# Altium schematic symbol library FPGA_Xilinx_Virtex5.SchLib: 41 symbols (part 15 of 17)
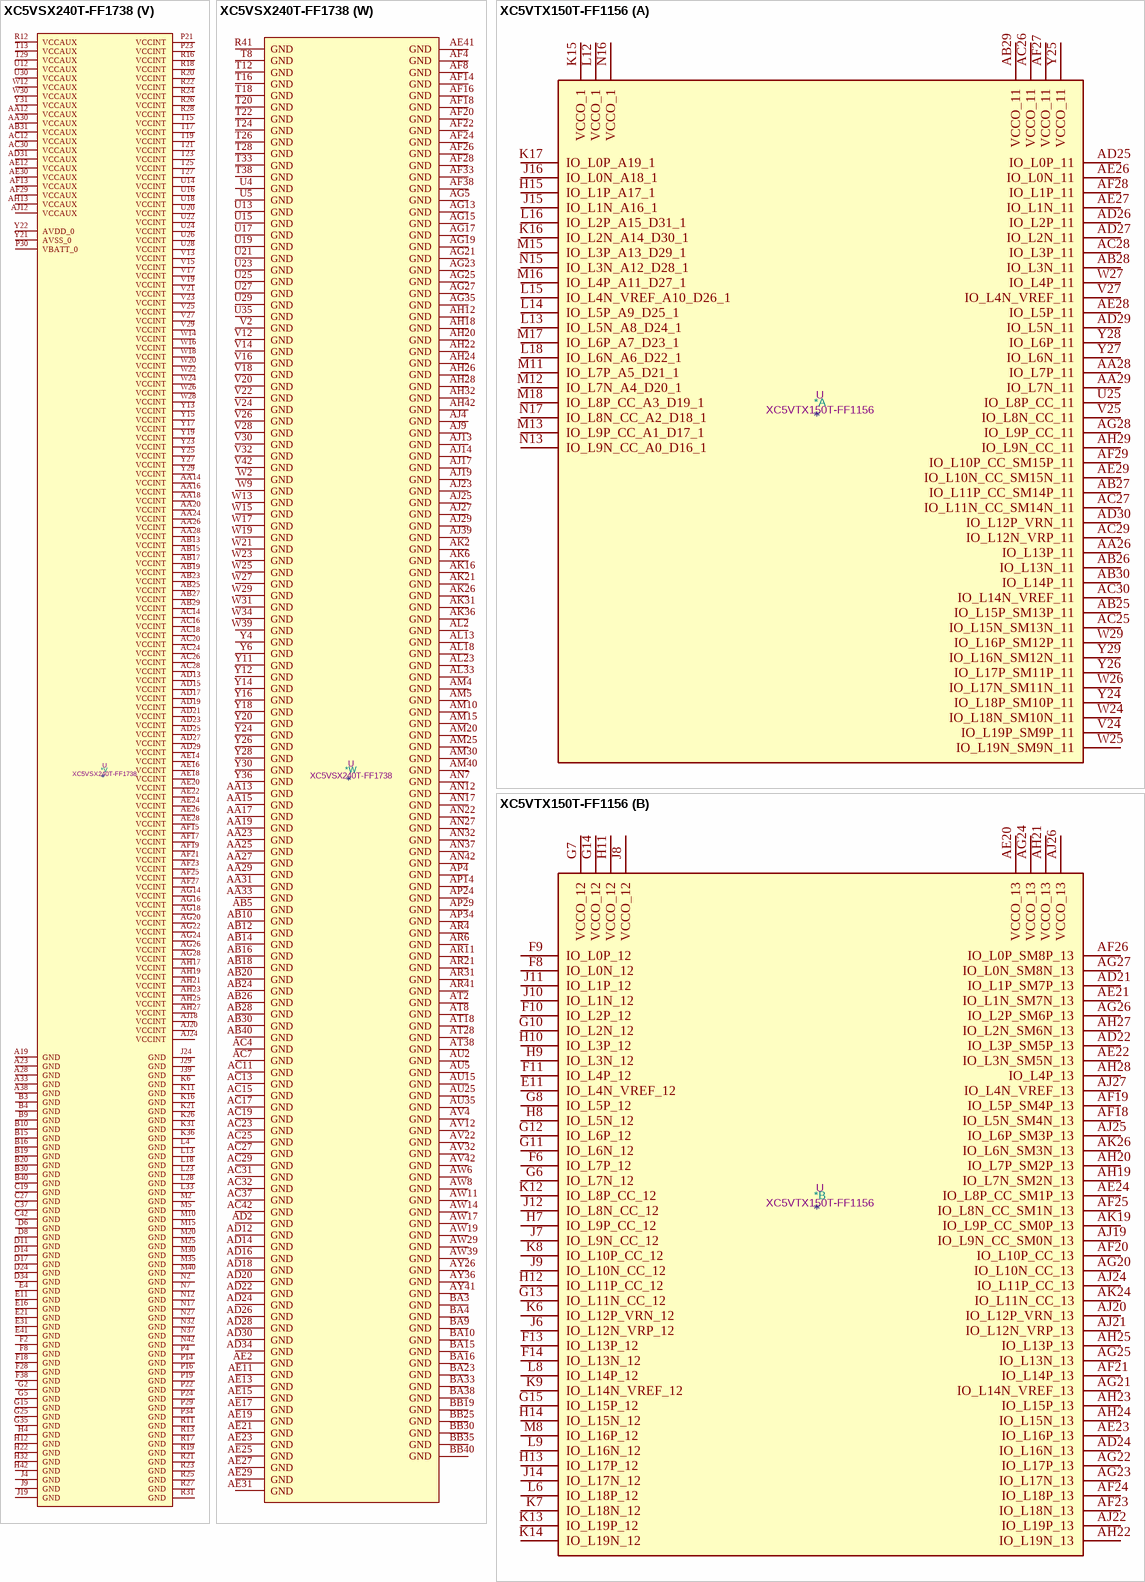
[diagram p151: symbols XC5VSX240T-FF1738 to XC5VTX150T-FF1156]

## XC5VSX240T-FF1738
designator *  value XC5VSX240T-FF1738  Reference: U
Virtex 5 SXT 240 XC5VSX240T-FF1738; ki_keywords: FPGA; Description_: Virtex 5 SXT 240 XC5VSX240T-FF1738
part A pins: AA37 IO_L11N_CC_SM14N_11, AA38 VCCO_11, AA39 IO_L9N_CC_11, AA40 IO_L9P_CC_11, AA41 IO_L19N_SM9N_11, AA42 IO_L19P_SM9P_11, F13 VCCO_1, F41 IO_L1P_11, F42 IO_L0P_11, G41 IO_L1N_11, G42 IO_L0N_11, H41 IO_L2P_11, J14 VCCO_1, J41 IO_L2N_11, J42 IO_L3P_11, K42 IO_L3N_11, L40 IO_L4P_11, L41 IO_L4N_VREF_11, L42 IO_L5P_11, M13 IO_L7N_A4_D20_1, M14 IO_L7P_A5_D21_1, M16 IO_L3P_A13_D29_1, M29 IO_L8N_CC_A2_D18_1, M41 IO_L5N_11, M42 IO_L6P_11, N13 IO_L9P_CC_A1_D17_1, N14 IO_L5N_A8_D24_1, N15 IO_L5P_A9_D25_1, N16 IO_L3N_A12_D28_1, N25 IO_L0P_A19_1, N26 IO_L2N_A14_D30_1, N28 IO_L6P_A7_D23_1, N29 IO_L6N_A6_D22_1, N30 IO_L8P_CC_A3_D19_1, N40 IO_L7P_11, N41 IO_L6N_11, P13 IO_L9N_CC_A0_D16_1, P17 IO_L1N_A16_1, P18 IO_L1P_A17_1, P25 IO_L0N_A18_1, P26 IO_L2P_A15_D31_1, P27 IO_L4P_A11_D27_1, P28 IO_L4N_VREF_A10_D26_1, P40 IO_L7N_11, P41 IO_L13P_11, P42 IO_L12N_VRP_11, R40 IO_L13N_11, R42 IO_L12P_VRN_11, T40 IO_L14P_11, T41 IO_L14N_VREF_11, T42 IO_L15P_SM13P_11, U41 IO_L15N_SM13N_11, U42 IO_L16P_SM12P_11, V37 VCCO_11, V40 IO_L17P_SM11P_11, V41 IO_L16N_SM12N_11, W40 IO_L8P_CC_11, W41 IO_L17N_SM11N_11, W42 IO_L18P_SM10P_11, Y37 IO_L11P_CC_SM14P_11, Y38 IO_L10N_CC_SM15N_11, Y39 IO_L10P_CC_SM15P_11, Y40 IO_L8N_CC_11, Y41 VCCO_11, Y42 IO_L18N_SM10N_11
part B pins: AA6 IO_L0N_12, AA7 IO_L0P_12, AA8 VCCO_12, AA9 IO_L17P_12, AA10 IO_L16N_12, AA11 IO_L16P_12, AB35 VCCO_13, AB37 IO_L8P_CC_SM1P_13, AB38 IO_L8N_CC_SM1N_13, AB39 IO_L9P_CC_SM0P_13, AB41 IO_L0P_SM8P_13, AB42 IO_L0N_SM8N_13, AC38 IO_L9N_CC_SM0N_13, AC39 IO_L11N_CC_13, AC40 IO_L11P_CC_13, AC41 IO_L1P_SM7P_13, AD39 VCCO_13, AD40 IO_L10N_CC_13, AD41 IO_L2N_SM6N_13, AD42 IO_L1N_SM7N_13, AE36 VCCO_13, AE40 IO_L10P_CC_13, AE42 IO_L2P_SM6P_13, AF40 IO_L4P_13, AF41 IO_L3P_SM5P_13, AF42 IO_L3N_SM5N_13, AG41 IO_L4N_VREF_13, AG42 IO_L5P_SM4P_13, AH40 IO_L7P_SM2P_13, AH41 IO_L5N_SM4N_13, AJ40 IO_L7N_SM2N_13, AJ41 IO_L6N_SM3N_13, AJ42 IO_L6P_SM3P_13, AK40 IO_L12P_VRN_13, AK42 IO_L13N_13, AL40 IO_L12N_VRP_13, AL41 IO_L13P_13, AL42 IO_L14P_13, AM41 IO_L15P_13, AM42 IO_L14N_VREF_13, AN41 IO_L15N_13, AP41 IO_L16N_13, AP42 IO_L16P_13, AR42 IO_L17P_13, AT41 IO_L18P_13, AT42 IO_L17N_13, AU41 IO_L18N_13, AU42 IO_L19P_13, AV41 IO_L19N_13, G6 IO_L1P_12, H5 IO_L1N_12, H6 IO_L3P_12, J5 IO_L3N_12, J6 IO_L5P_12, K4 IO_L7P_12, K5 IO_L5N_12, L5 IO_L7N_12, L6 IO_L9P_CC_12, M6 IO_L9N_CC_12, N5 IO_L10P_CC_12, N6 IO_L10N_CC_12, P5 IO_L12P_VRN_12, P6 IO_L12N_VRP_12, R4 IO_L14P_12, R5 IO_L14N_VREF_12, T4 IO_L15N_12, T5 IO_L15P_12, T6 IO_L13N_12, T7 IO_L13P_12, U6 IO_L11N_CC_12, U7 IO_L11P_CC_12, U10 VCCO_12, V5 IO_L8P_CC_12, V6 IO_L8N_CC_12, V7 VCCO_12, V8 IO_L6N_12, W5 IO_L2P_12, W6 IO_L2N_12, W7 IO_L4N_VREF_12, W8 IO_L6P_12, W10 IO_L18N_12, W11 IO_L18P_12, Y7 IO_L4P_12, Y8 IO_L19N_12, Y9 IO_L19P_12, Y10 IO_L17N_12
part C pins: AA34 IO_L17P_15, AA35 IO_L16P_15, AA36 IO_L16N_15, AB34 IO_L0P_17, AB36 IO_L1N_17, AC34 IO_L0N_17, AC35 IO_L1P_17, AC36 IO_L2P_17, AD35 IO_L2N_17, AD36 IO_L3P_17, AD37 IO_L3N_17, AD38 IO_L4N_VREF_17, AE37 IO_L4P_17, AE38 IO_L5N_17, AE39 IO_L5P_17, AF37 IO_L7N_17, AF39 IO_L6P_17, AG37 IO_L7P_17, AG38 IO_L6N_17, AG39 IO_L12P_VRN_17, AG40 VCCO_17, AH37 VCCO_17, AH38 IO_L15N_17, AH39 IO_L12N_VRP_17, AJ37 IO_L15P_17, AJ38 IO_L13P_17, AK37 IO_L14N_VREF_17, AK38 IO_L14P_17, AK39 IO_L13N_17, AK41 VCCO_17, AL37 IO_L19N_17, AL39 IO_L16P_17, AM37 IO_L19P_17, AM38 IO_L18N_17, AM39 IO_L16N_17, AN38 IO_L18P_17, AN39 IO_L17P_17, AN40 IO_L8P_CC_17, AP38 IO_L17N_17, AP40 IO_L8N_CC_17, AR39 IO_L11N_CC_17, AR40 IO_L9P_CC_17, AT39 IO_L11P_CC_17, AT40 IO_L9N_CC_17, AU39 IO_L10N_CC_17, AV40 IO_L10P_CC_17, E39 IO_L3P_15, E40 IO_L3N_15, F39 IO_L2P_15, F40 IO_L2N_15, G38 IO_L1P_15, G39 IO_L1N_15, H38 IO_L0P_15, H39 IO_L0N_15, H40 IO_L10P_CC_15, J38 IO_L9N_CC_15, J40 IO_L10N_CC_15, K38 IO_L9P_CC_15, K39 IO_L11N_CC_15, K40 IO_L11P_CC_15, L39 IO_L8N_CC_15, M38 IO_L8P_CC_15, M39 IO_L7N_15, N38 IO_L6N_15, N39 IO_L7P_15, P37 IO_L5N_15, P38 IO_L6P_15, P39 VCCO_15, R36 VCCO_15, R37 IO_L5P_15, R38 IO_L4N_VREF_15, R39 IO_L4P_15, T37 IO_L13P_15, T39 IO_L14P_15, U37 IO_L12N_VRP_15, U38 IO_L13N_15, U39 IO_L14N_VREF_15, U40 VCCO_15, V38 IO_L12P_VRN_15, V39 IO_L15P_15, W35 IO_L18N_15, W36 IO_L19P_15, W37 IO_L19N_15, W38 IO_L15N_15, Y34 IO_L17N_15, Y35 IO_L18P_15
part D pins: AA32 IO_L19N_19, AB6 IO_L9N_CC_18, AB7 IO_L9P_CC_18, AB8 IO_L3N_18, AB9 IO_L3P_18, AB11 IO_L1P_18, AC5 IO_L10P_CC_18, AC6 IO_L10N_CC_18, AC8 IO_L5P_18, AC9 IO_L5N_18, AC10 IO_L1N_18, AD5 IO_L14N_VREF_18, AD6 IO_L12P_VRN_18, AD7 IO_L12N_VRP_18, AD8 IO_L16P_18, AD9 VCCO_18, AD10 IO_L7P_18, AD11 IO_L7N_18, AE5 IO_L14P_18, AE6 VCCO_18, AE7 IO_L15N_18, AE8 IO_L16N_18, AE9 IO_L18P_18, AE10 IO_L18N_18, AF5 IO_L11P_CC_18, AF6 IO_L11N_CC_18, AF7 IO_L15P_18, AF9 IO_L17P_18, AF10 IO_L17N_18, AF11 IO_L19P_18, AF12 IO_L19N_18, AG4 IO_L8P_CC_18, AG6 IO_L13P_18, AG7 IO_L13N_18, AG10 VCCO_18, AH4 IO_L8N_CC_18, AH5 IO_L6N_18, AH6 IO_L6P_18, AJ5 IO_L4N_VREF_18, AJ6 IO_L4P_18, AJ7 IO_L0P_18, AK5 IO_L2N_18, AK7 IO_L0N_18, AL5 IO_L2P_18, D37 IO_L15N_19, E37 IO_L14N_VREF_19, E38 IO_L15P_19, F36 IO_L13P_19, F37 IO_L14P_19, G36 IO_L13N_19, G37 IO_L12N_VRP_19, G40 VCCO_19, H35 IO_L6P_19, H36 IO_L12P_VRN_19, J35 IO_L5N_19, J36 IO_L6N_19, J37 IO_L7N_19, K35 IO_L5P_19, K37 IO_L7P_19, K41 VCCO_19, L35 IO_L4N_VREF_19, L36 IO_L4P_19, L37 IO_L2P_19, L38 VCCO_19, M36 IO_L1N_19, M37 IO_L2N_19, N35 IO_L1P_19, N36 IO_L3P_19, P35 IO_L0N_19, P36 IO_L3N_19, R34 IO_L0P_19, R35 IO_L10P_CC_19, T34 IO_L9P_CC_19, T35 IO_L8N_CC_19, T36 IO_L10N_CC_19, U33 IO_L9N_CC_19, U34 IO_L8P_CC_19, U36 IO_L11P_CC_19, V33 IO_L17P_19, V34 IO_L16N_19, V35 IO_L16P_19, V36 IO_L11N_CC_19, W32 IO_L18N_19, W33 IO_L17N_19, Y32 IO_L19P_19, Y33 IO_L18P_19
part E pins: AJ26 IO_L9N_D0_FS0_2, AJ30 IO_L1P_CC_A25_2, AK12 IO_L0P_CC_RS1_2, AK13 IO_L0N_CC_RS0_2, AK14 IO_L2N_A22_2, AK15 IO_L2P_A23_2, AK27 IO_L9P_D1_FS1_2, AK28 IO_L7P_D5_2, AK29 IO_L7N_D4_2, AK30 IO_L1N_CC_A24_2, AL14 IO_L4P_FCS_B_2, AL29 IO_L5N_CSO_B_2, AL30 IO_L3P_A21_2, AM13 IO_L4N_VREF_FOE_B_MOSI_2, AM14 IO_L8N_D2_FS2_2, AM28 IO_L5P_FWE_B_2, AM29 IO_L3N_A20_2, AN13 IO_L6P_D7_2, AN14 IO_L8P_D3_2, AP13 IO_L6N_D6_2, AR26 VCCO_2, AV27 VCCO_2, D7 IO_L3P_20, E5 IO_L7P_20, E7 IO_L3N_20, E8 IO_L1N_20, E9 IO_L1P_20, F5 IO_L7N_20, F6 IO_L5N_20, F7 IO_L5P_20, F9 IO_L9P_CC_20, G7 IO_L10P_CC_20, G8 IO_L10N_CC_20, G9 IO_L9N_CC_20, H8 IO_L12P_VRN_20, H9 IO_L12N_VRP_20, J7 IO_L14N_VREF_20, J8 IO_L14P_20, K7 IO_L17P_20, K8 IO_L16P_20, K9 IO_L16N_20, L7 IO_L17N_20, L8 VCCO_20, L9 IO_L19N_20, M7 IO_L18P_20, M8 IO_L18N_20, M9 IO_L19P_20, N8 IO_L0N_20, N9 IO_L0P_20, P7 IO_L2P_20, P8 IO_L2N_20, P9 VCCO_20, R6 VCCO_20, R7 IO_L4P_20, R8 IO_L4N_VREF_20, R9 IO_L6P_20, T9 IO_L6N_20, T10 IO_L13P_20, T11 IO_L13N_20, U8 IO_L11P_CC_20, U9 IO_L11N_CC_20, U11 IO_L15P_20, V9 IO_L8P_CC_20, V10 IO_L8N_CC_20, V11 IO_L15N_20
part F pins: AB32 IO_L0N_21, AB33 IO_L0P_21, AC33 IO_L1P_21, AD32 IO_L1N_21, AD33 IO_L2P_21, AE32 IO_L2N_21, AE33 IO_L3P_21, AE34 IO_L3N_21, AE35 IO_L8P_CC_21, AF34 IO_L8N_CC_21, AF35 IO_L9P_CC_21, AF36 IO_L9N_CC_21, AG34 IO_L10N_CC_21, AG36 IO_L11N_CC_21, AH34 IO_L10P_CC_21, AH35 IO_L11P_CC_21, AH36 IO_L16P_21, AJ34 VCCO_21, AJ35 IO_L17P_21, AJ36 IO_L16N_21, AK34 IO_L19N_21, AK35 IO_L17N_21, AL34 IO_L19P_21, AL35 IO_L18N_21, AL36 IO_L18P_21, AL38 VCCO_21, AM34 IO_L15N_21, AM35 VCCO_21, AM36 IO_L14P_21, AN34 IO_L15P_21, AN35 IO_L14N_VREF_21, AN36 IO_L13N_21, AP35 IO_L13P_21, AP36 IO_L12N_VRP_21, AP37 IO_L12P_VRN_21, AR37 IO_L7P_21, AR38 IO_L6N_21, AT36 IO_L7N_21, AT37 IO_L6P_21, AU37 IO_L5N_21, AU38 IO_L5P_21, AV38 IO_L4N_VREF_21, AV39 IO_L4P_21, D39 VCCO_23, E32 IO_L11P_CC_23, E33 IO_L11N_CC_23, E34 IO_L9P_CC_23, E35 IO_L8N_CC_23, E36 VCCO_23, F31 IO_L10P_CC_23, F32 IO_L10N_CC_23, F34 IO_L9N_CC_23, F35 IO_L8P_CC_23, G31 IO_L6N_23, G32 IO_L6P_23, G33 IO_L5P_23, G34 IO_L4N_VREF_23, H31 IO_L7P_23, H33 IO_L5N_23, H34 IO_L4P_23, H37 VCCO_23, J31 IO_L7N_23, J32 IO_L14N_VREF_23, J33 IO_L13N_23, K32 IO_L14P_23, K33 IO_L13P_23, K34 IO_L12N_VRP_23, L31 IO_L15N_23, L32 IO_L15P_23, L34 IO_L12P_VRN_23, M31 IO_L2N_23, M32 IO_L2P_23, M33 IO_L1N_23, M34 IO_L1P_23, N31 IO_L3P_23, N33 IO_L0P_23, N34 IO_L0N_23, P31 IO_L3N_23, P32 IO_L16N_23, P33 IO_L16P_23, R32 IO_L17N_23, R33 IO_L17P_23, T31 IO_L19N_23, T32 IO_L18P_23, U31 IO_L19P_23, U32 IO_L18N_23
part G pins: AF31 IO_L0N_25, AF32 IO_L1P_25, AG31 IO_L0P_25, AG32 IO_L2N_25, AG33 IO_L1N_25, AH31 IO_L3P_25, AH33 IO_L2P_25, AJ31 IO_L3N_25, AJ32 IO_L17P_25, AJ33 IO_L16N_25, AK32 IO_L17N_25, AK33 IO_L16P_25, AL31 IO_L19P_25, AL32 IO_L18P_25, AM31 IO_L19N_25, AM32 IO_L18N_25, AM33 IO_L15N_25, AN31 IO_L12N_VRP_25, AN33 IO_L15P_25, AP31 IO_L12P_VRN_25, AP32 IO_L13N_25, AP33 IO_L14N_VREF_25, AP39 VCCO_25, AR32 IO_L13P_25, AR33 IO_L14P_25, AR34 IO_L7N_25, AR35 IO_L7P_25, AR36 VCCO_25, AT31 IO_L11N_CC_25, AT32 IO_L11P_CC_25, AT34 IO_L6N_25, AT35 IO_L5N_25, AU31 IO_L10N_CC_25, AU32 IO_L8P_CC_25, AU33 IO_L8N_CC_25, AU34 IO_L6P_25, AU36 IO_L5P_25, AU40 VCCO_25, AV31 IO_L10P_CC_25, AV33 IO_L9P_CC_25, AV34 IO_L9N_CC_25, AV35 IO_L4P_25, AV36 IO_L4N_VREF_25, D12 IO_L15N_24, D13 IO_L17P_24, E6 VCCO_24, E10 IO_L3P_24, E12 IO_L15P_24, E13 IO_L13N_24, E14 IO_L17N_24, E15 IO_L19P_24, F10 IO_L3N_24, F11 IO_L2N_24, F12 IO_L2P_24, F14 IO_L13P_24, F15 IO_L19N_24, G10 VCCO_24, G11 IO_L1N_24, G12 IO_L1P_24, G13 IO_L11P_CC_24, G14 IO_L11N_CC_24, H7 VCCO_24, H10 IO_L7P_24, H11 IO_L0N_24, H13 IO_L6N_24, H14 IO_L8P_CC_24, H15 IO_L8N_CC_24, J10 IO_L7N_24, J11 IO_L5N_24, J12 IO_L0P_24, J13 IO_L6P_24, K10 IO_L9P_CC_24, K12 IO_L5P_24, K13 IO_L4N_VREF_24, K14 IO_L4P_24, L10 IO_L9N_CC_24, L11 IO_L10N_CC_24, L12 IO_L10P_CC_24, M11 IO_L12P_VRN_24, M12 IO_L12N_VRP_24, N10 IO_L16N_24, N11 IO_L14P_24, P10 IO_L18N_24, P11 IO_L16P_24, P12 IO_L14N_VREF_24, R10 IO_L18P_24
part H pins: A30 IO_L2P_27, A31 IO_L2N_27, A32 IO_L3P_27, A34 IO_L7P_27, A35 IO_L7N_27, A36 IO_L10N_CC_27, A37 IO_L10P_CC_27, A39 IO_L15P_27, A40 IO_L15N_27, A41 IO_L16P_27, AG8 IO_L9P_CC_26, AG9 IO_L3P_26, AG11 IO_L1N_26, AG12 IO_L1P_26, AH7 VCCO_26, AH8 IO_L9N_CC_26, AH9 IO_L3N_26, AH10 IO_L5P_26, AH11 IO_L5N_26, AJ8 IO_L10N_CC_26, AJ10 IO_L7N_26, AJ11 IO_L7P_26, AK8 IO_L10P_CC_26, AK9 IO_L12P_VRN_26, AK10 IO_L12N_VRP_26, AK11 VCCO_26, AL6 IO_L16P_26, AL7 IO_L16N_26, AL8 VCCO_26, AL9 IO_L14P_26, AL10 IO_L14N_VREF_26, AM6 IO_L18N_26, AM7 IO_L19P_26, AM8 IO_L19N_26, AM9 IO_L8P_CC_26, AN4 IO_L17P_26, AN5 IO_L17N_26, AN6 IO_L18P_26, AN8 IO_L11P_CC_26, AN9 IO_L8N_CC_26, AP5 IO_L15N_26, AP6 IO_L15P_26, AP7 IO_L13P_26, AP8 IO_L11N_CC_26, AR5 IO_L2N_26, AR7 IO_L0N_26, AR8 IO_L13N_26, AT5 IO_L4P_26, AT6 IO_L2P_26, AT7 IO_L0P_26, AU6 IO_L4N_VREF_26, AV5 IO_L6N_26, AV6 IO_L6P_26, B31 IO_L1N_27, B32 IO_L3N_27, B33 IO_L4P_27, B34 IO_L6N_27, B35 VCCO_27, B36 IO_L11N_CC_27, B37 IO_L11P_CC_27, B38 IO_L14N_VREF_27, B39 IO_L14P_27, B41 IO_L16N_27, B42 IO_L17P_27, C30 IO_L1P_27, C31 IO_L0N_27, C33 IO_L4N_VREF_27, C34 IO_L6P_27, C35 IO_L9N_CC_27, C36 IO_L9P_CC_27, C38 IO_L12P_VRN_27, C39 IO_L13P_27, C40 IO_L13N_27, C41 IO_L17N_27, D31 IO_L0P_27, D32 IO_L5P_27, D33 IO_L5N_27, D35 IO_L8P_CC_27, D36 IO_L8N_CC_27, D38 IO_L12N_VRP_27, D40 IO_L18P_27, D41 IO_L18N_27, D42 IO_L19N_27, E42 IO_L19P_27, F33 VCCO_27, J34 VCCO_27
part I pins: AT33 VCCO_29, AV37 VCCO_29, AW31 IO_L19N_29, AW32 IO_L15N_29, AW33 IO_L15P_29, AW34 VCCO_29, AW35 IO_L11N_CC_29, AW36 IO_L9N_CC_29, AW37 IO_L6N_29, AW38 IO_L7P_29, AW40 IO_L1N_29, AW41 IO_L1P_29, AW42 IO_L0N_29, AY30 IO_L19P_29, AY32 IO_L16P_29, AY33 IO_L14P_29, AY34 IO_L14N_VREF_29, AY35 IO_L11P_CC_29, AY37 IO_L9P_CC_29, AY38 IO_L6P_29, AY39 IO_L7N_29, AY40 IO_L2P_29, AY42 IO_L0P_29, BA30 IO_L18P_29, BA31 IO_L18N_29, BA32 IO_L16N_29, BA34 IO_L13N_29, BA35 IO_L12N_VRP_29, BA36 IO_L10N_CC_29, BA37 IO_L8N_CC_29, BA39 IO_L5N_29, BA40 IO_L4P_29, BA41 IO_L2N_29, BA42 IO_L3P_29, BB31 IO_L17N_29, BB32 IO_L17P_29, BB33 IO_L13P_29, BB34 IO_L12P_VRN_29, BB36 IO_L10P_CC_29, BB37 IO_L8P_CC_29, BB38 IO_L5P_29, BB39 IO_L4N_VREF_29, BB41 IO_L3N_29, E26 VCCO_3, H27 VCCO_3, J15 IO_L0N_CC_GC_3, J16 IO_L0P_CC_GC_3, J17 IO_L2P_GC_VRN_3, J30 IO_L7N_GC_3, K15 IO_L8N_GC_3, K17 IO_L2N_GC_VRP_3, K28 IO_L5N_GC_3, K29 IO_L7P_GC_3, K30 IO_L9P_GC_3, L14 IO_L8P_GC_3, L15 IO_L6N_GC_3, L16 IO_L6P_GC_3, L17 IO_L4P_GC_3, L27 IO_L1N_CC_GC_3, L29 IO_L5P_GC_3, L30 IO_L9N_GC_3, M17 IO_L4N_GC_VREF_3, M26 IO_L1P_CC_GC_3, M27 IO_L3P_GC_3, M28 IO_L3N_GC_3
part J pins: A20 IO_L2P_31, A21 IO_L2N_31, A22 IO_L3P_31, A24 IO_L6N_31, A25 IO_L13N_31, A26 IO_L13P_31, A27 IO_L14P_31, A29 IO_L15N_31, AU30 VCCO_33, AV26 IO_L11P_CC_33, AV28 IO_L10P_CC_33, AV29 IO_L5P_33, AV30 IO_L4N_VREF_33, AW20 IO_L19N_33, AW21 IO_L19P_33, AW22 IO_L15N_33, AW23 IO_L15P_33, AW25 IO_L9N_CC_33, AW26 IO_L11N_CC_33, AW27 IO_L10N_CC_33, AW28 IO_L5N_33, AW30 IO_L4P_33, AY19 IO_L18P_33, AY20 IO_L18N_33, AY22 IO_L14P_33, AY23 IO_L14N_VREF_33, AY24 IO_L9P_CC_33, AY25 IO_L3N_33, AY27 IO_L6P_33, AY28 IO_L6N_33, AY29 IO_L7P_33, AY31 VCCO_33, B21 IO_L3N_31, B22 IO_L5N_31, B23 IO_L6P_31, B24 IO_L7P_31, B26 IO_L12N_VRP_31, B27 IO_L14N_VREF_31, B28 IO_L15P_31, B29 IO_L18N_31, BA19 IO_L17N_33, BA20 IO_L17P_33, BA21 IO_L16N_33, BA22 IO_L13N_33, BA24 IO_L8N_CC_33, BA25 IO_L3P_33, BA26 IO_L2N_33, BA27 IO_L1N_33, BA28 VCCO_33, BA29 IO_L7N_33, BB20 IO_L16P_33, BB21 IO_L13P_33, BB22 IO_L12P_VRN_33, BB23 IO_L12N_VRP_33, BB24 IO_L8P_CC_33, BB26 IO_L2P_33, BB27 IO_L1P_33, BB28 IO_L0N_33, BB29 IO_L0P_33, C20 IO_L1N_31, C21 IO_L1P_31, C23 IO_L5P_31, C24 IO_L7N_31, C25 IO_L12P_VRN_31, C26 IO_L11N_CC_31, C28 IO_L19P_31, C29 IO_L18P_31, C32 VCCO_31, D20 IO_L0P_31, D21 IO_L0N_31, D22 IO_L4P_31, D23 IO_L4N_VREF_31, D25 IO_L9P_CC_31, D26 IO_L9N_CC_31, D27 IO_L11P_CC_31, D28 IO_L19N_31, D29 VCCO_31, D30 IO_L17N_31, E24 IO_L8P_CC_31, E25 IO_L8N_CC_31, E27 IO_L10N_CC_31, E28 IO_L10P_CC_31, E29 IO_L17P_31, E30 IO_L16N_31, F30 IO_L16P_31, G30 VCCO_31
part K pins: AK17 IO_L1P_GC_D13_4, AL11 IO_L1P_34, AL12 IO_L1N_34, AL15 IO_L3P_GC_D9_4, AL16 IO_L3N_GC_D8_4, AL17 IO_L1N_GC_D12_4, AL26 IO_L8N_CC_GC_4, AL27 IO_L8P_CC_GC_4, AM11 IO_L3P_34, AM12 IO_L3N_34, AM16 IO_L5P_GC_4, AM17 IO_L5N_GC_4, AM26 IO_L6N_GC_4, AM27 IO_L6P_GC_4, AN10 IO_L5N_34, AN11 IO_L5P_34, AN15 IO_L7P_GC_VRN_4, AN16 IO_L7N_GC_VRP_4, AN28 IO_L4N_GC_VREF_4, AN29 IO_L2P_GC_D11_4, AN30 IO_L0P_GC_D15_4, AP9 VCCO_34, AP10 IO_L7P_34, AP11 IO_L9P_CC_34, AP12 IO_L9N_CC_34, AP15 IO_L9N_CC_GC_4, AP16 IO_L9P_CC_GC_4, AP27 IO_L4P_GC_4, AP28 IO_L2N_GC_D10_4, AP30 IO_L0N_GC_D14_4, AR9 IO_L7N_34, AR10 IO_L10P_CC_34, AR12 IO_L12N_VRP_34, AR13 IO_L14P_34, AR16 VCCO_4, AT9 IO_L18N_34, AT10 IO_L10N_CC_34, AT11 IO_L12P_VRN_34, AT12 IO_L14N_VREF_34, AT13 VCCO_4, AU7 IO_L19N_34, AU8 IO_L19P_34, AU9 IO_L18P_34, AU10 VCCO_34, AU11 IO_L13P_34, AU12 IO_L13N_34, AU13 IO_L15N_34, AU14 IO_L15P_34, AU16 IO_L4N_VREF_34, AU17 IO_L2N_34, AV7 VCCO_34, AV8 IO_L16N_34, AV9 IO_L17N_34, AV10 IO_L17P_34, AV11 IO_L11N_CC_34, AV13 IO_L8N_CC_34, AV14 IO_L6N_34, AV15 IO_L6P_34, AV16 IO_L4P_34, AV18 IO_L2P_34, AV19 IO_L0N_34, AW7 IO_L16P_34, AW12 IO_L11P_CC_34, AW13 IO_L8P_CC_34, AW18 IO_L0P_34
part L pins: AK18 IO_L16P_6, AK19 IO_L16N_6, AK24 IO_L17P_6, AK25 IO_L17N_6, AL19 IO_L18N_6, AL24 IO_L19N_6, AL25 IO_L19P_6, AM18 IO_L10N_CC_6, AM19 IO_L18P_6, AM24 IO_L15P_6, AN18 IO_L10P_CC_6, AN19 IO_L9N_CC_6, AN20 IO_L9P_CC_6, AN24 IO_L15N_6, AN25 IO_L13P_6, AN26 IO_L11P_CC_6, AP17 IO_L7P_6, AP18 IO_L12N_VRP_6, AP25 IO_L13N_6, AP26 IO_L11N_CC_6, AR14 IO_L1N_6, AR15 IO_L3N_6, AR17 IO_L7N_6, AR18 IO_L12P_VRN_6, AR19 IO_L14N_VREF_6, AR27 IO_L8N_CC_6, AR28 IO_L0N_6, AR29 IO_L0P_6, AR30 IO_L2P_6, AT14 IO_L1P_6, AT15 IO_L3P_6, AT16 IO_L5N_6, AT17 IO_L5P_6, AT19 IO_L14P_6, AT23 VCCO_6, AT26 IO_L8P_CC_6, AT27 IO_L6N_6, AT29 IO_L4P_6, AT30 IO_L2N_6, AU28 IO_L6P_6, AU29 IO_L4N_VREF_6, AW24 VCCO_6, AY21 VCCO_6, B25 VCCO_5, C22 VCCO_5, E17 IO_L1N_5, E18 IO_L1P_5, F16 IO_L3P_5, F17 IO_L3N_5, F23 VCCO_5, F27 IO_L13N_5, F29 IO_L17N_5, G16 IO_L5P_5, G17 IO_L7N_5, G18 IO_L7P_5, G27 IO_L13P_5, G28 IO_L15P_5, G29 IO_L17P_5, H16 IO_L5N_5, H18 IO_L9N_CC_5, H26 IO_L6P_5, H28 IO_L15N_5, H29 IO_L19P_5, H30 IO_L19N_5, J18 IO_L9P_CC_5, J25 IO_L4N_VREF_5, J26 IO_L6N_5, J27 IO_L8N_CC_5, J28 IO_L8P_CC_5, K18 IO_L10P_CC_5, K19 IO_L10N_CC_5, K24 IO_L2P_5, K25 IO_L4P_5, K27 IO_L11P_CC_5, L19 IO_L18N_5, L20 IO_L18P_5, L24 IO_L0P_5, L25 IO_L2N_5, L26 IO_L11N_CC_5, M18 IO_L16P_5, M19 IO_L14P_5, M24 IO_L0N_5, N18 IO_L16N_5, N19 IO_L14N_VREF_5, N20 IO_L12P_VRN_5, P20 IO_L12N_VRP_5
part M pins: AJ21 IO_L2N_8, AJ22 IO_L2P_8, AK20 IO_L3P_8, AK22 IO_L1N_8, AK23 IO_L1P_8, AL20 IO_L3N_8, AL21 IO_L0P_8, AL22 IO_L0N_8, AM21 IO_L19N_8, AM22 IO_L16P_8, AM23 IO_L16N_8, AN21 IO_L19P_8, AN23 IO_L17P_8, AP19 VCCO_8, AP20 IO_L18P_8, AP21 IO_L18N_8, AP22 IO_L14N_VREF_8, AP23 IO_L17N_8, AR20 IO_L7P_8, AR22 IO_L15P_8, AR23 IO_L14P_8, AR24 IO_L8N_CC_8, AR25 IO_L6P_8, AT20 IO_L7N_8, AT21 IO_L9N_CC_8, AT22 IO_L15N_8, AT24 IO_L8P_CC_8, AT25 IO_L6N_8, AU18 IO_L5N_8, AU19 IO_L5P_8, AU20 VCCO_8, AU21 IO_L9P_CC_8, AU22 IO_L12N_VRP_8, AU23 IO_L12P_VRN_8, AU24 IO_L11P_CC_8, AU26 IO_L4P_8, AU27 IO_L4N_VREF_8, AV17 VCCO_8, AV20 IO_L10N_CC_8, AV21 IO_L10P_CC_8, AV23 IO_L13P_8, AV24 IO_L13N_8, AV25 IO_L11N_CC_8, D18 IO_L12N_VRP_7, D19 VCCO_7, E19 IO_L12P_VRN_7, E20 IO_L14P_7, E22 IO_L10P_CC_7, E23 IO_L10N_CC_7, F19 IO_L16P_7, F20 IO_L14N_VREF_7, F21 IO_L9N_CC_7, F22 IO_L8P_CC_7, F24 IO_L11P_CC_7, F25 IO_L17N_7, F26 IO_L17P_7, G19 IO_L16N_7, G20 VCCO_7, G21 IO_L9P_CC_7, G22 IO_L8N_CC_7, G23 IO_L11N_CC_7, G24 IO_L15P_7, G26 IO_L19N_7, H17 VCCO_7, H19 IO_L18P_7, H20 IO_L18N_7, H21 IO_L4P_7, H23 IO_L13N_7, H24 IO_L15N_7, H25 IO_L19P_7, J20 IO_L5P_7, J21 IO_L4N_VREF_7, J22 IO_L7N_7, J23 IO_L13P_7, K20 IO_L5N_7, K22 IO_L7P_7, K23 IO_L6N_7, L21 IO_L1N_7, L22 IO_L6P_7, M21 IO_L1P_7, M22 IO_L0N_7, M23 IO_L0P_7, N21 IO_L3N_7, N22 IO_L3P_7, N23 IO_L2N_7, N24 IO_L2P_7
part N pins: AA2 MGTTXP1_112, AB2 MGTTXP0_114, AC1 MGTRXP0_114, AC2 MGTTXN0_114, AD1 MGTRXN0_114, AD3 MGTREFCLKN_114, AD4 MGTREFCLKP_114, AE1 MGTRXN1_114, AF1 MGTRXP1_114, AF2 MGTTXN1_114, AG2 MGTTXP1_114, T2 MGTTXP0_112, U1 MGTRXP0_112, U2 MGTTXN0_112, V1 MGTRXN0_112, V3 MGTREFCLKN_112, V4 MGTREFCLKP_112, W1 MGTRXN1_112, Y1 MGTRXP1_112, Y2 MGTTXN1_112
part O pins: AH2 MGTTXP0_118, AJ1 MGTRXP0_118, AJ2 MGTTXN0_118, AK1 MGTRXN0_118, AK3 MGTREFCLKN_118, AK4 MGTREFCLKP_118, AL1 MGTRXN1_118, AM1 MGTRXP1_118, AM2 MGTTXN1_118, AN2 MGTTXP1_118, K2 MGTTXP0_116, L1 MGTRXP0_116, L2 MGTTXN0_116, M1 MGTRXN0_116, M3 MGTREFCLKN_116, M4 MGTREFCLKP_116, N1 MGTRXN1_116, P1 MGTRXP1_116, P2 MGTTXN1_116, R2 MGTTXP1_116
part P pins: AP2 MGTTXP0_122, AR1 MGTRXP0_122, AR2 MGTTXN0_122, AT1 MGTRXN0_122, AT3 MGTREFCLKN_122, AT4 MGTREFCLKP_122, AU1 MGTRXN1_122, AV1 MGTRXP1_122, AV2 MGTTXN1_122, AW2 MGTTXP1_122, D2 MGTTXP0_120, E1 MGTRXP0_120, E2 MGTTXN0_120, F1 MGTRXN0_120, F3 MGTREFCLKN_120, F4 MGTREFCLKP_120, G1 MGTRXN1_120, H1 MGTRXP1_120, H2 MGTTXN1_120, J2 MGTTXP1_120
part Q pins: A2 MGTRXP1_124, A3 MGTRXN1_124, A4 MGTRXN0_124, A5 MGTRXP0_124, AW4 MGTREFCLKP_126, AY4 MGTREFCLKN_126, B1 MGTTXP1_124, B2 MGTTXN1_124, B5 MGTTXN0_124, B6 MGTTXP0_124, BA1 MGTTXP0_126, BA2 MGTTXN0_126, BA5 MGTTXN1_126, BA6 MGTTXP1_126, BB2 MGTRXP0_126, BB3 MGTRXN0_126, BB4 MGTRXN1_126, BB5 MGTRXP1_126, C3 MGTREFCLKN_124, C4 MGTREFCLKP_124
part R pins: A8 MGTRXP1_128, A9 MGTRXN1_128, A10 MGTRXN0_128, A11 MGTRXP0_128, AW9 MGTREFCLKP_130, AY9 MGTREFCLKN_130, B7 MGTTXP1_128, B8 MGTTXN1_128, B11 MGTTXN0_128, B12 MGTTXP0_128, BA7 MGTTXP0_130, BA8 MGTTXN0_130, BA11 MGTTXN1_130, BA12 MGTTXP1_130, BB8 MGTRXP0_130, BB9 MGTRXN0_130, BB10 MGTRXN1_130, BB11 MGTRXP1_130, C10 MGTREFCLKN_128, D10 MGTREFCLKP_128
part S pins: A14 MGTRXP1_132, A15 MGTRXN1_132, A16 MGTRXN0_132, A17 MGTRXP0_132, AW15 MGTREFCLKP_134, AY15 MGTREFCLKN_134, B13 MGTTXP1_132, B14 MGTTXN1_132, B17 MGTTXN0_132, B18 MGTTXP0_132, BA13 MGTTXP0_134, BA14 MGTTXN0_134, BA17 MGTTXN1_134, BA18 MGTTXP1_134, BB14 MGTRXP0_134, BB15 MGTRXN0_134, BB16 MGTRXN1_134, BB17 MGTRXP1_134, C16 MGTREFCLKN_132, D16 MGTREFCLKP_132
part T pins: AA3 MGTAVTTTX_112, AA5 MGTAVTTRXC, AB3 MGTAVTTTX_114, AB4 MGTRREF_112, AC3 MGTAVTTRX_114, AE3 MGTAVCC_114, AE4 MGTAVCC_114, AF3 MGTAVCCPLL_114, AG3 MGTAVTTTX_114, AH3 MGTAVTTTX_118, AJ3 MGTAVTTRX_118, AL3 MGTAVCC_118, AL4 MGTAVCC_118, AM3 MGTAVCCPLL_118, AN3 MGTAVTTTX_118, AP3 MGTAVTTTX_122, AR3 MGTAVTTRX_122, AU3 MGTAVCC_122, AU4 MGTAVCC_122, AV3 MGTAVCCPLL_122, AW3 MGTAVTTTX_122, AW5 MGTAVCC_126, AW10 MGTAVCC_130, AW16 MGTAVCC_134, AY1 MGTAVTTTX_126, AY2 MGTAVTTRX_126, AY3 MGTAVCC_126, AY5 MGTAVCCPLL_126, AY6 MGTAVTTTX_126, AY7 MGTAVTTTX_130, AY8 MGTAVTTRX_130, AY10 MGTAVCC_130, AY11 MGTAVCCPLL_130, AY12 MGTAVTTTX_130, AY13 MGTAVTTTX_134, AY14 MGTAVTTRX_134, AY16 MGTAVCC_134, AY17 MGTAVCCPLL_134, AY18 MGTAVTTTX_134, C1 MGTAVTTTX_124, C2 MGTAVCCPLL_124, C5 MGTAVTTRX_124, C6 MGTAVTTTX_124, C7 MGTAVTTTX_128, C8 MGTAVCCPLL_128, C9 MGTAVCC_128, C11 MGTAVTTRX_128, C12 MGTAVTTTX_128, C13 MGTAVTTTX_132, C14 MGTAVCCPLL_132, C15 MGTAVCC_132, C17 MGTAVTTRX_132, C18 MGTAVTTTX_132, D3 MGTAVTTTX_120, D4 MGTAVCC_124, D5 MGTAVCC_124, D9 MGTAVCC_128, D15 MGTAVCC_132, E3 MGTAVTTRX_120, G3 MGTAVCC_120, G4 MGTAVCC_120, H3 MGTAVCCPLL_120, J3 MGTAVTTTX_120, K3 MGTAVTTTX_116, L3 MGTAVTTRX_116, N3 MGTAVCC_116, N4 MGTAVCC_116, P3 MGTAVCCPLL_116, R3 MGTAVTTTX_116, T3 MGTAVTTTX_112, U3 MGTAVTTRX_112, W3 MGTAVCC_112, W4 MGTAVCC_112, Y3 MGTAVCCPLL_112
part U pins: AA21 VREFN_0, AA22 VP_0, AB21 VN_0, AB22 VREFP_0, AC21 DXN_0, AC22 DXP_0, AF30 RSVD_0, AG29 TCK_0, AG30 VCCO_0, AH14 CCLK_0, AH15 TMS_0, AH16 TDI_0, AH29 M0_0, AH30 M1_0, AJ15 TDO_0, AJ16 D_OUT_BUSY_0, AJ28 M2_0, AL28 VCCO_0, P15 HSWAPEN_0, R14 DONE_0, R15 D_IN_0, R29 PROGRAM_B_0, R30 RDWR_B_0, T14 INIT_B_0, T30 CS_B_0, V31 RSVD_0
part V pins: A19 GND, A23 GND, A28 GND, A33 GND, A38 GND, AA12 VCCAUX, AA14 VCCINT, AA16 VCCINT, AA18 VCCINT, AA20 VCCINT, AA24 VCCINT, AA26 VCCINT, AA28 VCCINT, AA30 VCCAUX, AB13 VCCINT, AB15 VCCINT, AB17 VCCINT, AB19 VCCINT, AB23 VCCINT, AB25 VCCINT, AB27 VCCINT, AB29 VCCINT, AB31 VCCAUX, AC12 VCCAUX, AC14 VCCINT, AC16 VCCINT, AC18 VCCINT, AC20 VCCINT, AC24 VCCINT, AC26 VCCINT, AC28 VCCINT, AC30 VCCAUX, AD13 VCCINT, AD15 VCCINT, AD17 VCCINT, AD19 VCCINT, AD21 VCCINT, AD23 VCCINT, AD25 VCCINT, AD27 VCCINT, AD29 VCCINT, AD31 VCCAUX, AE12 VCCAUX, AE14 VCCINT, AE16 VCCINT, AE18 VCCINT, AE20 VCCINT, AE22 VCCINT, AE24 VCCINT, AE26 VCCINT, AE28 VCCINT, AE30 VCCAUX, AF13 VCCAUX, AF15 VCCINT, AF17 VCCINT, AF19 VCCINT, AF21 VCCINT, AF23 VCCINT, AF25 VCCINT, AF27 VCCINT, AF29 VCCAUX, AG14 VCCINT, AG16 VCCINT, AG18 VCCINT, AG20 VCCINT, AG22 VCCINT, AG24 VCCINT, AG26 VCCINT, AG28 VCCINT, AH13 VCCAUX, AH17 VCCINT, AH19 VCCINT, AH21 VCCINT, AH23 VCCINT, AH25 VCCINT, AH27 VCCINT, AJ12 VCCAUX, AJ18 VCCINT, AJ20 VCCINT, AJ24 VCCINT, B3 GND, B4 GND, B9 GND, B10 GND, B15 GND, B16 GND, B19 GND, B20 GND, B30 GND, B40 GND, C19 GND, C27 GND, C37 GND, C42 GND, D6 GND, D8 GND, D11 GND, D14 GND, D17 GND, D24 GND, D34 GND, E4 GND, E11 GND, E16 GND, E21 GND, E31 GND, E41 GND, F2 GND, F8 GND, F18 GND, F28 GND, F38 GND, G2 GND, G5 GND, G15 GND, G25 GND, G35 GND, H4 GND, H12 GND, H22 GND, H32 GND, H42 GND, J4 GND, J9 GND, J19 GND, J24 GND, J29 GND, J39 GND, K6 GND, K11 GND, K16 GND, K21 GND, K26 GND, K31 GND, K36 GND, L4 GND, L13 GND, L18 GND, L23 GND, L28 GND, L33 GND, M2 GND, M5 GND, M10 GND, M15 GND, M20 GND, M25 GND, M30 GND, M35 GND, M40 GND, N2 GND, N7 GND, N12 GND, N17 GND, N27 GND, N32 GND, N37 GND, N42 GND, P4 GND, P14 GND, P16 GND, P19 GND, P21 VCCINT, P22 GND, P23 VCCINT, P24 GND, P29 GND, P30 VBATT_0, P34 GND, R11 GND, R12 VCCAUX, R13 GND, R16 VCCINT, R17 GND, R18 VCCINT, R19 GND, R20 VCCINT, R21 GND, R22 VCCINT, R23 GND, R24 VCCINT, R25 GND, R26 VCCINT, R27 GND, R28 VCCINT, R31 GND, T13 VCCAUX, T15 VCCINT, T17 VCCINT, T19 VCCINT, T21 VCCINT, T23 VCCINT, T25 VCCINT, T27 VCCINT, T29 VCCAUX, U12 VCCAUX, U14 VCCINT, U16 VCCINT, U18 VCCINT, U20 VCCINT, U22 VCCINT, U24 VCCINT, U26 VCCINT, U28 VCCINT, U30 VCCAUX, V13 VCCINT, V15 VCCINT, V17 VCCINT, V19 VCCINT, V21 VCCINT, V23 VCCINT, V25 VCCINT, V27 VCCINT, V29 VCCINT, W12 VCCAUX, W14 VCCINT, W16 VCCINT, W18 VCCINT, W20 VCCINT, W22 VCCINT, W24 VCCINT, W26 VCCINT, W28 VCCINT, W30 VCCAUX, Y13 VCCINT, Y15 VCCINT, Y17 VCCINT, Y19 VCCINT, Y21 AVSS_0, Y22 AVDD_0, Y23 VCCINT, Y25 VCCINT, Y27 VCCINT, Y29 VCCINT, Y31 VCCAUX
part W pins: AA13 GND, AA15 GND, AA17 GND, AA19 GND, AA23 GND, AA25 GND, AA27 GND, AA29 GND, AA31 GND, AA33 GND, AB5 GND, AB10 GND, AB12 GND, AB14 GND, AB16 GND, AB18 GND, AB20 GND, AB24 GND, AB26 GND, AB28 GND, AB30 GND, AB40 GND, AC4 GND, AC7 GND, AC11 GND, AC13 GND, AC15 GND, AC17 GND, AC19 GND, AC23 GND, AC25 GND, AC27 GND, AC29 GND, AC31 GND, AC32 GND, AC37 GND, AC42 GND, AD2 GND, AD12 GND, AD14 GND, AD16 GND, AD18 GND, AD20 GND, AD22 GND, AD24 GND, AD26 GND, AD28 GND, AD30 GND, AD34 GND, AE2 GND, AE11 GND, AE13 GND, AE15 GND, AE17 GND, AE19 GND, AE21 GND, AE23 GND, AE25 GND, AE27 GND, AE29 GND, AE31 GND, AE41 GND, AF4 GND, AF8 GND, AF14 GND, AF16 GND, AF18 GND, AF20 GND, AF22 GND, AF24 GND, AF26 GND, AF28 GND, AF33 GND, AF38 GND, AG5 GND, AG13 GND, AG15 GND, AG17 GND, AG19 GND, AG21 GND, AG23 GND, AG25 GND, AG27 GND, AG35 GND, AH12 GND, AH18 GND, AH20 GND, AH22 GND, AH24 GND, AH26 GND, AH28 GND, AH32 GND, AH42 GND, AJ4 GND, AJ9 GND, AJ13 GND, AJ14 GND, AJ17 GND, AJ19 GND, AJ23 GND, AJ25 GND, AJ27 GND, AJ29 GND, AJ39 GND, AK2 GND, AK6 GND, AK16 GND, AK21 GND, AK26 GND, AK31 GND, AK36 GND, AL2 GND, AL13 GND, AL18 GND, AL23 GND, AL33 GND, AM4 GND, AM5 GND, AM10 GND, AM15 GND, AM20 GND, AM25 GND, AM30 GND, AM40 GND, AN7 GND, AN12 GND, AN17 GND, AN22 GND, AN27 GND, AN32 GND, AN37 GND, AN42 GND, AP4 GND, AP14 GND, AP24 GND, AP29 GND, AP34 GND, AR4 GND, AR6 GND, AR11 GND, AR21 GND, AR31 GND, AR41 GND, AT2 GND, AT8 GND, AT18 GND, AT28 GND, AT38 GND, AU2 GND, AU5 GND, AU15 GND, AU25 GND, AU35 GND, AV4 GND, AV12 GND, AV22 GND, AV32 GND, AV42 GND, AW6 GND, AW8 GND, AW11 GND, AW14 GND, AW17 GND, AW19 GND, AW29 GND, AW39 GND, AY26 GND, AY36 GND, AY41 GND, BA3 GND, BA4 GND, BA9 GND, BA10 GND, BA15 GND, BA16 GND, BA23 GND, BA33 GND, BA38 GND, BB19 GND, BB25 GND, BB30 GND, BB35 GND, BB40 GND, R41 GND, T8 GND, T12 GND, T16 GND, T18 GND, T20 GND, T22 GND, T24 GND, T26 GND, T28 GND, T33 GND, T38 GND, U4 GND, U5 GND, U13 GND, U15 GND, U17 GND, U19 GND, U21 GND, U23 GND, U25 GND, U27 GND, U29 GND, U35 GND, V2 GND, V12 GND, V14 GND, V16 GND, V18 GND, V20 GND, V22 GND, V24 GND, V26 GND, V28 GND, V30 GND, V32 GND, V42 GND, W2 GND, W9 GND, W13 GND, W15 GND, W17 GND, W19 GND, W21 GND, W23 GND, W25 GND, W27 GND, W29 GND, W31 GND, W34 GND, W39 GND, Y4 GND, Y6 GND, Y11 GND, Y12 GND, Y14 GND, Y16 GND, Y18 GND, Y20 GND, Y24 GND, Y26 GND, Y28 GND, Y30 GND, Y36 GND

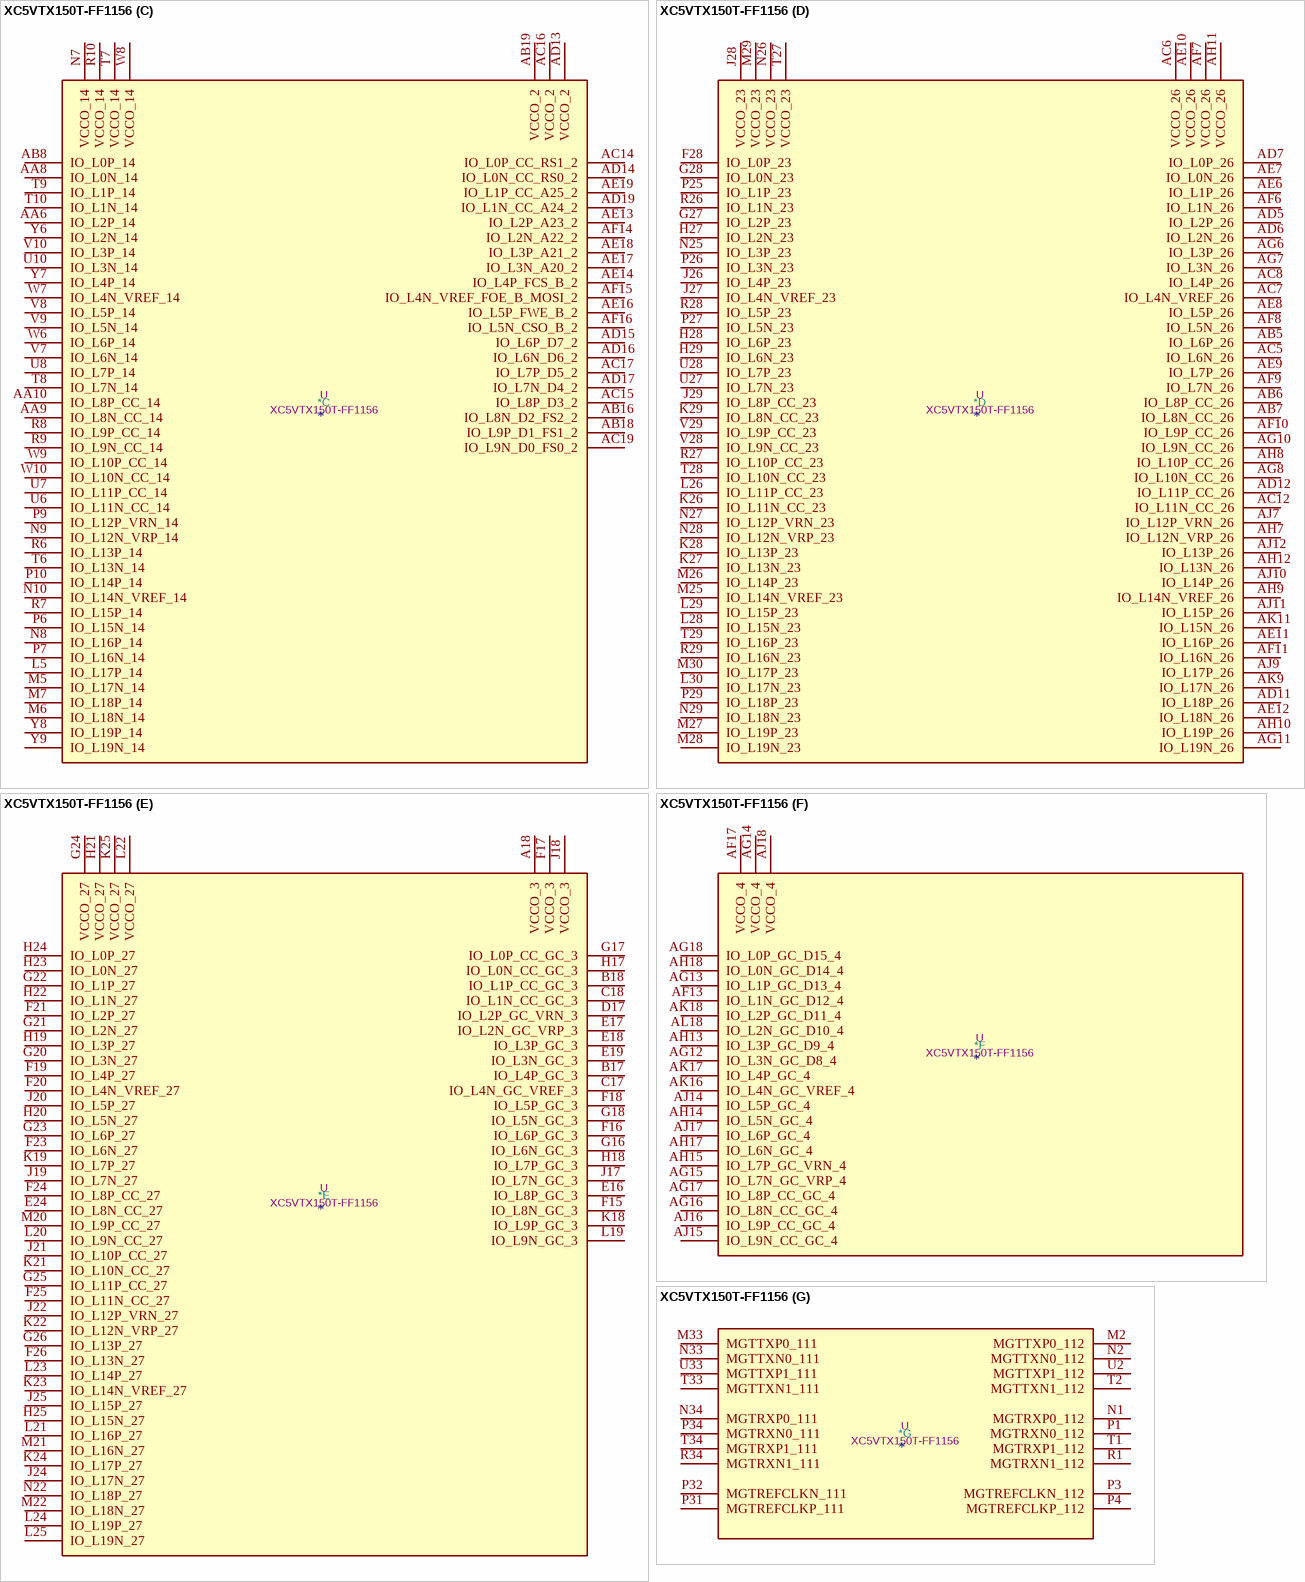
[diagram p126: symbol XC5VTX150T-FF1156]

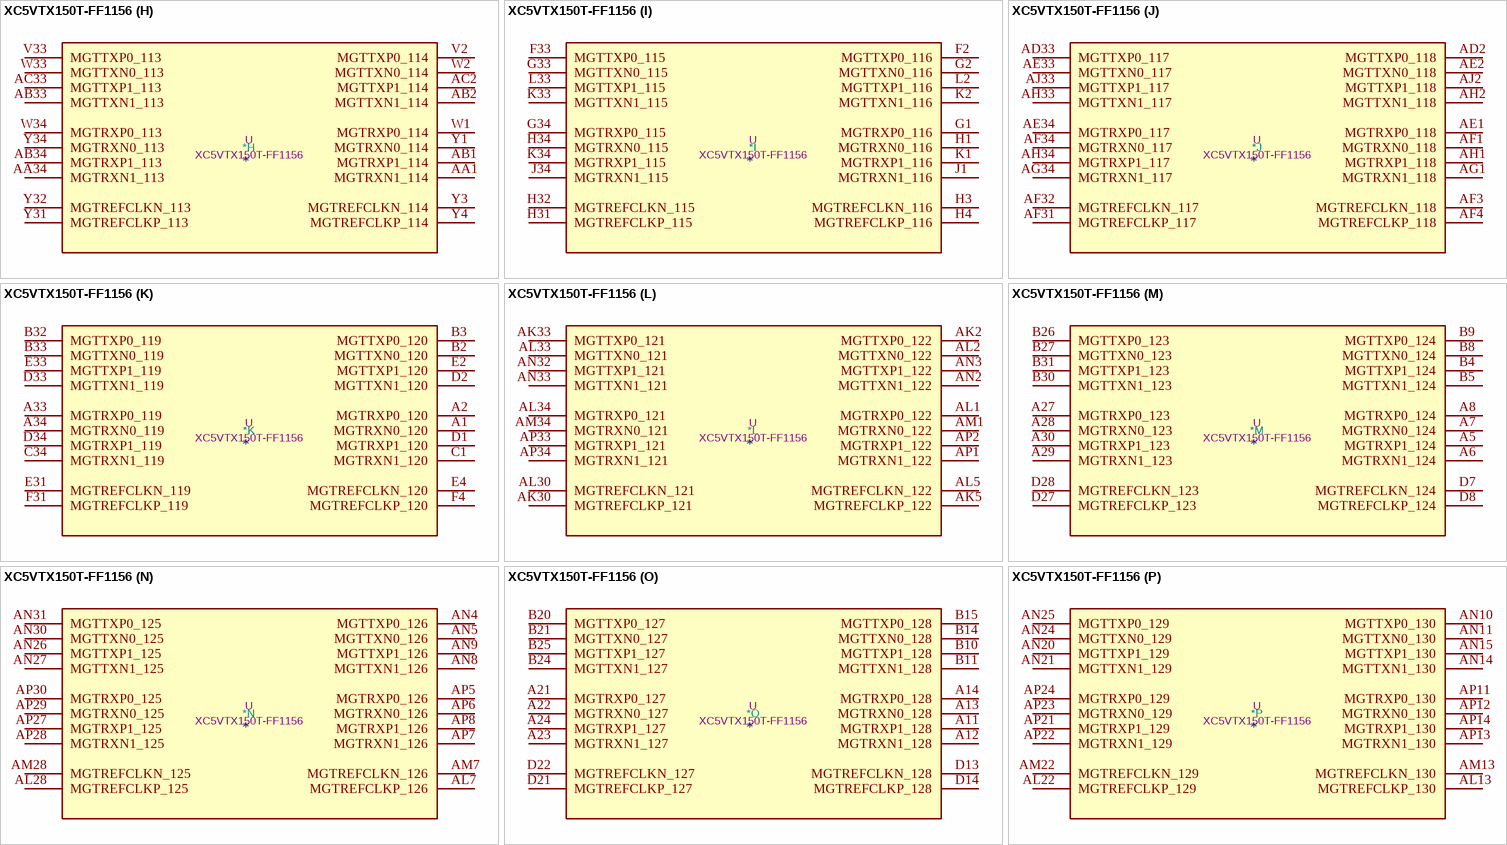
[diagram p127: symbol XC5VTX150T-FF1156]

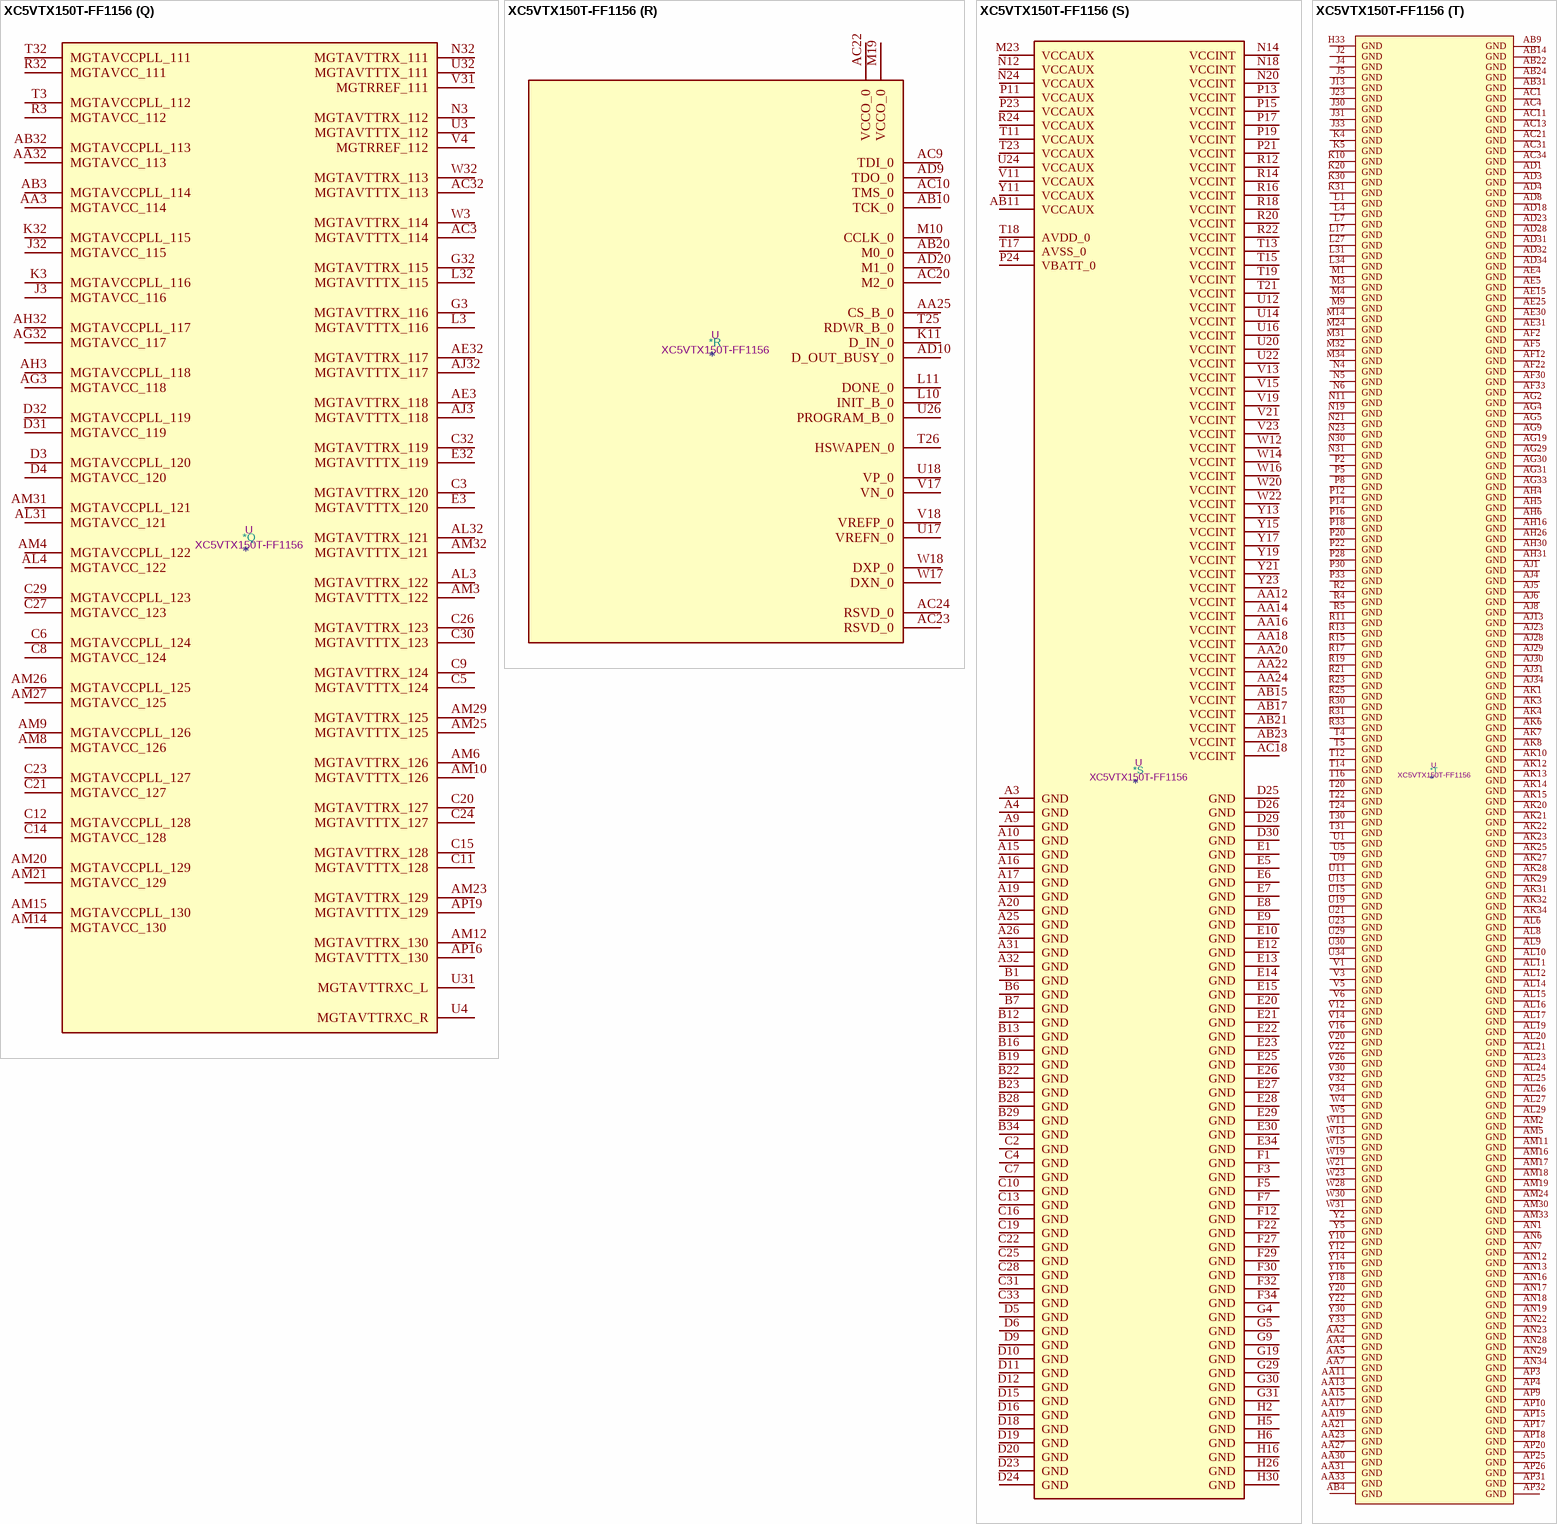
[diagram p128: symbol XC5VTX150T-FF1156]

## XC5VTX150T-FF1156
designator *  value XC5VTX150T-FF1156  Reference: U
Virtex 5 TXT 150 XC5VTX150T-FF1156; ki_keywords: FPGA; Description_: Virtex 5 TXT 150 XC5VTX150T-FF1156
part A pins: AA26 IO_L13P_11, AA28 IO_L7P_11, AA29 IO_L7N_11, AB25 IO_L15P_SM13P_11, AB26 IO_L13N_11, AB27 IO_L11P_CC_SM14P_11, AB28 IO_L3N_11, AB29 VCCO_11, AB30 IO_L14P_11, AC25 IO_L15N_SM13N_11, AC26 VCCO_11, AC27 IO_L11N_CC_SM14N_11, AC28 IO_L3P_11, AC29 IO_L12N_VRP_11, AC30 IO_L14N_VREF_11, AD25 IO_L0P_11, AD26 IO_L2P_11, AD27 IO_L2N_11, AD29 IO_L5N_11, AD30 IO_L12P_VRN_11, AE26 IO_L0N_11, AE27 IO_L1N_11, AE28 IO_L5P_11, AE29 IO_L10N_CC_SM15N_11, AF27 VCCO_11, AF28 IO_L1P_11, AF29 IO_L10P_CC_SM15P_11, AG28 IO_L9P_CC_11, AH29 IO_L9N_CC_11, H15 IO_L1P_A17_1, J15 IO_L1N_A16_1, J16 IO_L0N_A18_1, K15 VCCO_1, K16 IO_L2N_A14_D30_1, K17 IO_L0P_A19_1, L12 VCCO_1, L13 IO_L5N_A8_D24_1, L14 IO_L5P_A9_D25_1, L15 IO_L4N_VREF_A10_D26_1, L16 IO_L2P_A15_D31_1, L18 IO_L6N_A6_D22_1, M11 IO_L7P_A5_D21_1, M12 IO_L7N_A4_D20_1, M13 IO_L9P_CC_A1_D17_1, M15 IO_L3P_A13_D29_1, M16 IO_L4P_A11_D27_1, M17 IO_L6P_A7_D23_1, M18 IO_L8P_CC_A3_D19_1, N13 IO_L9N_CC_A0_D16_1, N15 IO_L3N_A12_D28_1, N16 VCCO_1, N17 IO_L8N_CC_A2_D18_1, U25 IO_L8P_CC_11, V24 IO_L19P_SM9P_11, V25 IO_L8N_CC_11, V27 IO_L4N_VREF_11, W24 IO_L18N_SM10N_11, W25 IO_L19N_SM9N_11, W26 IO_L17N_SM11N_11, W27 IO_L4P_11, W29 IO_L16P_SM12P_11, Y24 IO_L18P_SM10P_11, Y25 VCCO_11, Y26 IO_L17P_SM11P_11, Y27 IO_L6N_11, Y28 IO_L6P_11, Y29 IO_L16N_SM12N_11
part B pins: AD21 IO_L1P_SM7P_13, AD22 IO_L3P_SM5P_13, AD24 IO_L16N_13, AE20 VCCO_13, AE21 IO_L1N_SM7N_13, AE22 IO_L3N_SM5N_13, AE23 IO_L16P_13, AE24 IO_L8P_CC_SM1P_13, AF18 IO_L5N_SM4N_13, AF19 IO_L5P_SM4P_13, AF20 IO_L10P_CC_13, AF21 IO_L14P_13, AF23 IO_L18N_13, AF24 IO_L18P_13, AF25 IO_L8N_CC_SM1N_13, AF26 IO_L0P_SM8P_13, AG20 IO_L10N_CC_13, AG21 IO_L14N_VREF_13, AG22 IO_L17P_13, AG23 IO_L17N_13, AG24 VCCO_13, AG25 IO_L13N_13, AG26 IO_L2P_SM6P_13, AG27 IO_L0N_SM8N_13, AH19 IO_L7N_SM2N_13, AH20 IO_L7P_SM2P_13, AH21 VCCO_13, AH22 IO_L19N_13, AH23 IO_L15P_13, AH24 IO_L15N_13, AH25 IO_L13P_13, AH27 IO_L2N_SM6N_13, AH28 IO_L4P_13, AJ19 IO_L9N_CC_SM0N_13, AJ20 IO_L12P_VRN_13, AJ21 IO_L12N_VRP_13, AJ22 IO_L19P_13, AJ24 IO_L11P_CC_13, AJ25 IO_L6P_SM3P_13, AJ26 VCCO_13, AJ27 IO_L4N_VREF_13, AK19 IO_L9P_CC_SM0P_13, AK24 IO_L11N_CC_13, AK26 IO_L6N_SM3N_13, E11 IO_L4N_VREF_12, F6 IO_L7P_12, F8 IO_L0N_12, F9 IO_L0P_12, F10 IO_L2P_12, F11 IO_L4P_12, F13 IO_L13P_12, F14 IO_L13N_12, G6 IO_L7N_12, G7 VCCO_12, G8 IO_L5P_12, G10 IO_L2N_12, G11 IO_L6N_12, G12 IO_L6P_12, G13 IO_L11N_CC_12, G14 VCCO_12, G15 IO_L15P_12, H7 IO_L9P_CC_12, H8 IO_L5N_12, H9 IO_L3N_12, H10 IO_L3P_12, H11 VCCO_12, H12 IO_L11P_CC_12, H13 IO_L17P_12, H14 IO_L15N_12, J6 IO_L12N_VRP_12, J7 IO_L9N_CC_12, J8 VCCO_12, J9 IO_L10N_CC_12, J10 IO_L1N_12, J11 IO_L1P_12, J12 IO_L8N_CC_12, J14 IO_L17N_12, K6 IO_L12P_VRN_12, K7 IO_L18N_12, K8 IO_L10P_CC_12, K9 IO_L14N_VREF_12, K12 IO_L8P_CC_12, K13 IO_L19P_12, K14 IO_L19N_12, L6 IO_L18P_12, L8 IO_L14P_12, L9 IO_L16N_12, M8 IO_L16P_12
part C pins: AA6 IO_L2P_14, AA8 IO_L0N_14, AA9 IO_L8N_CC_14, AA10 IO_L8P_CC_14, AB8 IO_L0P_14, AB16 IO_L8N_D2_FS2_2, AB18 IO_L9P_D1_FS1_2, AB19 VCCO_2, AC14 IO_L0P_CC_RS1_2, AC15 IO_L8P_D3_2, AC16 VCCO_2, AC17 IO_L7P_D5_2, AC19 IO_L9N_D0_FS0_2, AD13 VCCO_2, AD14 IO_L0N_CC_RS0_2, AD15 IO_L6P_D7_2, AD16 IO_L6N_D6_2, AD17 IO_L7N_D4_2, AD19 IO_L1N_CC_A24_2, AE13 IO_L2P_A23_2, AE14 IO_L4P_FCS_B_2, AE16 IO_L5P_FWE_B_2, AE17 IO_L3N_A20_2, AE18 IO_L3P_A21_2, AE19 IO_L1P_CC_A25_2, AF14 IO_L2N_A22_2, AF15 IO_L4N_VREF_FOE_B_MOSI_2, AF16 IO_L5N_CSO_B_2, L5 IO_L17P_14, M5 IO_L17N_14, M6 IO_L18N_14, M7 IO_L18P_14, N7 VCCO_14, N8 IO_L16P_14, N9 IO_L12N_VRP_14, N10 IO_L14N_VREF_14, P6 IO_L15N_14, P7 IO_L16N_14, P9 IO_L12P_VRN_14, P10 IO_L14P_14, R6 IO_L13P_14, R7 IO_L15P_14, R8 IO_L9P_CC_14, R9 IO_L9N_CC_14, R10 VCCO_14, T6 IO_L13N_14, T7 VCCO_14, T8 IO_L7N_14, T9 IO_L1P_14, T10 IO_L1N_14, U6 IO_L11N_CC_14, U7 IO_L11P_CC_14, U8 IO_L7P_14, U10 IO_L3N_14, V7 IO_L6N_14, V8 IO_L5P_14, V9 IO_L5N_14, V10 IO_L3P_14, W6 IO_L6P_14, W7 IO_L4N_VREF_14, W8 VCCO_14, W9 IO_L10P_CC_14, W10 IO_L10N_CC_14, Y6 IO_L2N_14, Y7 IO_L4P_14, Y8 IO_L19P_14, Y9 IO_L19N_14
part D pins: AB5 IO_L6P_26, AB6 IO_L8P_CC_26, AB7 IO_L8N_CC_26, AC5 IO_L6N_26, AC6 VCCO_26, AC7 IO_L4N_VREF_26, AC8 IO_L4P_26, AC12 IO_L11N_CC_26, AD5 IO_L2P_26, AD6 IO_L2N_26, AD7 IO_L0P_26, AD11 IO_L18P_26, AD12 IO_L11P_CC_26, AE6 IO_L1P_26, AE7 IO_L0N_26, AE8 IO_L5P_26, AE9 IO_L7P_26, AE10 VCCO_26, AE11 IO_L16P_26, AE12 IO_L18N_26, AF6 IO_L1N_26, AF7 VCCO_26, AF8 IO_L5N_26, AF9 IO_L7N_26, AF10 IO_L9P_CC_26, AF11 IO_L16N_26, AG6 IO_L3P_26, AG7 IO_L3N_26, AG8 IO_L10N_CC_26, AG10 IO_L9N_CC_26, AG11 IO_L19N_26, AH7 IO_L12N_VRP_26, AH8 IO_L10P_CC_26, AH9 IO_L14N_VREF_26, AH10 IO_L19P_26, AH11 VCCO_26, AH12 IO_L13N_26, AJ7 IO_L12P_VRN_26, AJ9 IO_L17P_26, AJ10 IO_L14P_26, AJ11 IO_L15P_26, AJ12 IO_L13P_26, AK9 IO_L17N_26, AK11 IO_L15N_26, F28 IO_L0P_23, G27 IO_L2P_23, G28 IO_L0N_23, H27 IO_L2N_23, H28 IO_L6P_23, H29 IO_L6N_23, J26 IO_L4P_23, J27 IO_L4N_VREF_23, J28 VCCO_23, J29 IO_L8P_CC_23, K26 IO_L11N_CC_23, K27 IO_L13N_23, K28 IO_L13P_23, K29 IO_L8N_CC_23, L26 IO_L11P_CC_23, L28 IO_L15N_23, L29 IO_L15P_23, L30 IO_L17N_23, M25 IO_L14N_VREF_23, M26 IO_L14P_23, M27 IO_L19P_23, M28 IO_L19N_23, M29 VCCO_23, M30 IO_L17P_23, N25 IO_L3P_23, N26 VCCO_23, N27 IO_L12P_VRN_23, N28 IO_L12N_VRP_23, N29 IO_L18N_23, P25 IO_L1P_23, P26 IO_L3N_23, P27 IO_L5N_23, P29 IO_L18P_23, R26 IO_L1N_23, R27 IO_L10P_CC_23, R28 IO_L5P_23, R29 IO_L16N_23, T27 VCCO_23, T28 IO_L10N_CC_23, T29 IO_L16P_23, U27 IO_L7N_23, U28 IO_L7P_23, V28 IO_L9N_CC_23, V29 IO_L9P_CC_23
part E pins: A18 VCCO_3, B17 IO_L4P_GC_3, B18 IO_L1P_CC_GC_3, C17 IO_L4N_GC_VREF_3, C18 IO_L1N_CC_GC_3, D17 IO_L2P_GC_VRN_3, E16 IO_L8P_GC_3, E17 IO_L2N_GC_VRP_3, E18 IO_L3P_GC_3, E19 IO_L3N_GC_3, E24 IO_L8N_CC_27, F15 IO_L8N_GC_3, F16 IO_L6P_GC_3, F17 VCCO_3, F18 IO_L5P_GC_3, F19 IO_L4P_27, F20 IO_L4N_VREF_27, F21 IO_L2P_27, F23 IO_L6N_27, F24 IO_L8P_CC_27, F25 IO_L11N_CC_27, F26 IO_L13N_27, G16 IO_L6N_GC_3, G17 IO_L0P_CC_GC_3, G18 IO_L5N_GC_3, G20 IO_L3N_27, G21 IO_L2N_27, G22 IO_L1P_27, G23 IO_L6P_27, G24 VCCO_27, G25 IO_L11P_CC_27, G26 IO_L13P_27, H17 IO_L0N_CC_GC_3, H18 IO_L7P_GC_3, H19 IO_L3P_27, H20 IO_L5N_27, H21 VCCO_27, H22 IO_L1N_27, H23 IO_L0N_27, H24 IO_L0P_27, H25 IO_L15N_27, J17 IO_L7N_GC_3, J18 VCCO_3, J19 IO_L7N_27, J20 IO_L5P_27, J21 IO_L10P_CC_27, J22 IO_L12P_VRN_27, J24 IO_L17N_27, J25 IO_L15P_27, K18 IO_L9P_GC_3, K19 IO_L7P_27, K21 IO_L10N_CC_27, K22 IO_L12N_VRP_27, K23 IO_L14N_VREF_27, K24 IO_L17P_27, K25 VCCO_27, L19 IO_L9N_GC_3, L20 IO_L9N_CC_27, L21 IO_L16P_27, L22 VCCO_27, L23 IO_L14P_27, L24 IO_L19P_27, L25 IO_L19N_27, M20 IO_L9P_CC_27, M21 IO_L16N_27, M22 IO_L18N_27, N22 IO_L18P_27
part F pins: AF13 IO_L1N_GC_D12_4, AF17 VCCO_4, AG12 IO_L3N_GC_D8_4, AG13 IO_L1P_GC_D13_4, AG14 VCCO_4, AG15 IO_L7N_GC_VRP_4, AG16 IO_L8N_CC_GC_4, AG17 IO_L8P_CC_GC_4, AG18 IO_L0P_GC_D15_4, AH13 IO_L3P_GC_D9_4, AH14 IO_L5N_GC_4, AH15 IO_L7P_GC_VRN_4, AH17 IO_L6N_GC_4, AH18 IO_L0N_GC_D14_4, AJ14 IO_L5P_GC_4, AJ15 IO_L9N_CC_GC_4, AJ16 IO_L9P_CC_GC_4, AJ17 IO_L6P_GC_4, AJ18 VCCO_4, AK16 IO_L4N_GC_VREF_4, AK17 IO_L4P_GC_4, AK18 IO_L2P_GC_D11_4, AL18 IO_L2N_GC_D10_4
part G pins: M2 MGTTXP0_112, M33 MGTTXP0_111, N1 MGTRXP0_112, N2 MGTTXN0_112, N33 MGTTXN0_111, N34 MGTRXP0_111, P1 MGTRXN0_112, P3 MGTREFCLKN_112, P4 MGTREFCLKP_112, P31 MGTREFCLKP_111, P32 MGTREFCLKN_111, P34 MGTRXN0_111, R1 MGTRXN1_112, R34 MGTRXN1_111, T1 MGTRXP1_112, T2 MGTTXN1_112, T33 MGTTXN1_111, T34 MGTRXP1_111, U2 MGTTXP1_112, U33 MGTTXP1_111
part H pins: AA1 MGTRXN1_114, AA34 MGTRXN1_113, AB1 MGTRXP1_114, AB2 MGTTXN1_114, AB33 MGTTXN1_113, AB34 MGTRXP1_113, AC2 MGTTXP1_114, AC33 MGTTXP1_113, V2 MGTTXP0_114, V33 MGTTXP0_113, W1 MGTRXP0_114, W2 MGTTXN0_114, W33 MGTTXN0_113, W34 MGTRXP0_113, Y1 MGTRXN0_114, Y3 MGTREFCLKN_114, Y4 MGTREFCLKP_114, Y31 MGTREFCLKP_113, Y32 MGTREFCLKN_113, Y34 MGTRXN0_113
part I pins: F2 MGTTXP0_116, F33 MGTTXP0_115, G1 MGTRXP0_116, G2 MGTTXN0_116, G33 MGTTXN0_115, G34 MGTRXP0_115, H1 MGTRXN0_116, H3 MGTREFCLKN_116, H4 MGTREFCLKP_116, H31 MGTREFCLKP_115, H32 MGTREFCLKN_115, H34 MGTRXN0_115, J1 MGTRXN1_116, J34 MGTRXN1_115, K1 MGTRXP1_116, K2 MGTTXN1_116, K33 MGTTXN1_115, K34 MGTRXP1_115, L2 MGTTXP1_116, L33 MGTTXP1_115
part J pins: AD2 MGTTXP0_118, AD33 MGTTXP0_117, AE1 MGTRXP0_118, AE2 MGTTXN0_118, AE33 MGTTXN0_117, AE34 MGTRXP0_117, AF1 MGTRXN0_118, AF3 MGTREFCLKN_118, AF4 MGTREFCLKP_118, AF31 MGTREFCLKP_117, AF32 MGTREFCLKN_117, AF34 MGTRXN0_117, AG1 MGTRXN1_118, AG34 MGTRXN1_117, AH1 MGTRXP1_118, AH2 MGTTXN1_118, AH33 MGTTXN1_117, AH34 MGTRXP1_117, AJ2 MGTTXP1_118, AJ33 MGTTXP1_117
part K pins: A1 MGTRXN0_120, A2 MGTRXP0_120, A33 MGTRXP0_119, A34 MGTRXN0_119, B2 MGTTXN0_120, B3 MGTTXP0_120, B32 MGTTXP0_119, B33 MGTTXN0_119, C1 MGTRXN1_120, C34 MGTRXN1_119, D1 MGTRXP1_120, D2 MGTTXN1_120, D33 MGTTXN1_119, D34 MGTRXP1_119, E2 MGTTXP1_120, E4 MGTREFCLKN_120, E31 MGTREFCLKN_119, E33 MGTTXP1_119, F4 MGTREFCLKP_120, F31 MGTREFCLKP_119
part L pins: AK2 MGTTXP0_122, AK5 MGTREFCLKP_122, AK30 MGTREFCLKP_121, AK33 MGTTXP0_121, AL1 MGTRXP0_122, AL2 MGTTXN0_122, AL5 MGTREFCLKN_122, AL30 MGTREFCLKN_121, AL33 MGTTXN0_121, AL34 MGTRXP0_121, AM1 MGTRXN0_122, AM34 MGTRXN0_121, AN2 MGTTXN1_122, AN3 MGTTXP1_122, AN32 MGTTXP1_121, AN33 MGTTXN1_121, AP1 MGTRXN1_122, AP2 MGTRXP1_122, AP33 MGTRXP1_121, AP34 MGTRXN1_121
part M pins: A5 MGTRXP1_124, A6 MGTRXN1_124, A7 MGTRXN0_124, A8 MGTRXP0_124, A27 MGTRXP0_123, A28 MGTRXN0_123, A29 MGTRXN1_123, A30 MGTRXP1_123, B4 MGTTXP1_124, B5 MGTTXN1_124, B8 MGTTXN0_124, B9 MGTTXP0_124, B26 MGTTXP0_123, B27 MGTTXN0_123, B30 MGTTXN1_123, B31 MGTTXP1_123, D7 MGTREFCLKN_124, D8 MGTREFCLKP_124, D27 MGTREFCLKP_123, D28 MGTREFCLKN_123
part N pins: AL7 MGTREFCLKP_126, AL28 MGTREFCLKP_125, AM7 MGTREFCLKN_126, AM28 MGTREFCLKN_125, AN4 MGTTXP0_126, AN5 MGTTXN0_126, AN8 MGTTXN1_126, AN9 MGTTXP1_126, AN26 MGTTXP1_125, AN27 MGTTXN1_125, AN30 MGTTXN0_125, AN31 MGTTXP0_125, AP5 MGTRXP0_126, AP6 MGTRXN0_126, AP7 MGTRXN1_126, AP8 MGTRXP1_126, AP27 MGTRXP1_125, AP28 MGTRXN1_125, AP29 MGTRXN0_125, AP30 MGTRXP0_125
part O pins: A11 MGTRXP1_128, A12 MGTRXN1_128, A13 MGTRXN0_128, A14 MGTRXP0_128, A21 MGTRXP0_127, A22 MGTRXN0_127, A23 MGTRXN1_127, A24 MGTRXP1_127, B10 MGTTXP1_128, B11 MGTTXN1_128, B14 MGTTXN0_128, B15 MGTTXP0_128, B20 MGTTXP0_127, B21 MGTTXN0_127, B24 MGTTXN1_127, B25 MGTTXP1_127, D13 MGTREFCLKN_128, D14 MGTREFCLKP_128, D21 MGTREFCLKP_127, D22 MGTREFCLKN_127
part P pins: AL13 MGTREFCLKP_130, AL22 MGTREFCLKP_129, AM13 MGTREFCLKN_130, AM22 MGTREFCLKN_129, AN10 MGTTXP0_130, AN11 MGTTXN0_130, AN14 MGTTXN1_130, AN15 MGTTXP1_130, AN20 MGTTXP1_129, AN21 MGTTXN1_129, AN24 MGTTXN0_129, AN25 MGTTXP0_129, AP11 MGTRXP0_130, AP12 MGTRXN0_130, AP13 MGTRXN1_130, AP14 MGTRXP1_130, AP21 MGTRXP1_129, AP22 MGTRXN1_129, AP23 MGTRXN0_129, AP24 MGTRXP0_129
part Q pins: AA3 MGTAVCC_114, AA32 MGTAVCC_113, AB3 MGTAVCCPLL_114, AB32 MGTAVCCPLL_113, AC3 MGTAVTTTX_114, AC32 MGTAVTTTX_113, AE3 MGTAVTTRX_118, AE32 MGTAVTTRX_117, AG3 MGTAVCC_118, AG32 MGTAVCC_117, AH3 MGTAVCCPLL_118, AH32 MGTAVCCPLL_117, AJ3 MGTAVTTTX_118, AJ32 MGTAVTTTX_117, AL3 MGTAVTTRX_122, AL4 MGTAVCC_122, AL31 MGTAVCC_121, AL32 MGTAVTTRX_121, AM3 MGTAVTTTX_122, AM4 MGTAVCCPLL_122, AM6 MGTAVTTRX_126, AM8 MGTAVCC_126, AM9 MGTAVCCPLL_126, AM10 MGTAVTTTX_126, AM12 MGTAVTTRX_130, AM14 MGTAVCC_130, AM15 MGTAVCCPLL_130, AM20 MGTAVCCPLL_129, AM21 MGTAVCC_129, AM23 MGTAVTTRX_129, AM25 MGTAVTTTX_125, AM26 MGTAVCCPLL_125, AM27 MGTAVCC_125, AM29 MGTAVTTRX_125, AM31 MGTAVCCPLL_121, AM32 MGTAVTTTX_121, AP16 MGTAVTTTX_130, AP19 MGTAVTTTX_129, C3 MGTAVTTRX_120, C5 MGTAVTTTX_124, C6 MGTAVCCPLL_124, C8 MGTAVCC_124, C9 MGTAVTTRX_124, C11 MGTAVTTTX_128, C12 MGTAVCCPLL_128, C14 MGTAVCC_128, C15 MGTAVTTRX_128, C20 MGTAVTTRX_127, C21 MGTAVCC_127, C23 MGTAVCCPLL_127, C24 MGTAVTTTX_127, C26 MGTAVTTRX_123, C27 MGTAVCC_123, C29 MGTAVCCPLL_123, C30 MGTAVTTTX_123, C32 MGTAVTTRX_119, D3 MGTAVCCPLL_120, D4 MGTAVCC_120, D31 MGTAVCC_119, D32 MGTAVCCPLL_119, E3 MGTAVTTTX_120, E32 MGTAVTTTX_119, G3 MGTAVTTRX_116, G32 MGTAVTTRX_115, J3 MGTAVCC_116, J32 MGTAVCC_115, K3 MGTAVCCPLL_116, K32 MGTAVCCPLL_115, L3 MGTAVTTTX_116, L32 MGTAVTTTX_115, N3 MGTAVTTRX_112, N32 MGTAVTTRX_111, R3 MGTAVCC_112, R32 MGTAVCC_111, T3 MGTAVCCPLL_112, T32 MGTAVCCPLL_111, U3 MGTAVTTTX_112, U4 MGTAVTTRXC_R, U31 MGTAVTTRXC_L, U32 MGTAVTTTX_111, V4 MGTRREF_112, V31 MGTRREF_111, W3 MGTAVTTRX_114, W32 MGTAVTTRX_113
part R pins: AA25 CS_B_0, AB10 TCK_0, AB20 M0_0, AC9 TDI_0, AC10 TMS_0, AC20 M2_0, AC22 VCCO_0, AC23 RSVD_0, AC24 RSVD_0, AD9 TDO_0, AD10 D_OUT_BUSY_0, AD20 M1_0, K11 D_IN_0, L10 INIT_B_0, L11 DONE_0, M10 CCLK_0, M19 VCCO_0, T25 RDWR_B_0, T26 HSWAPEN_0, U17 VREFN_0, U18 VP_0, U26 PROGRAM_B_0, V17 VN_0, V18 VREFP_0, W17 DXN_0, W18 DXP_0
part S pins: A3 GND, A4 GND, A9 GND, A10 GND, A15 GND, A16 GND, A17 GND, A19 GND, A20 GND, A25 GND, A26 GND, A31 GND, A32 GND, AA12 VCCINT, AA14 VCCINT, AA16 VCCINT, AA18 VCCINT, AA20 VCCINT, AA22 VCCINT, AA24 VCCINT, AB11 VCCAUX, AB15 VCCINT, AB17 VCCINT, AB21 VCCINT, AB23 VCCINT, AC18 VCCINT, B1 GND, B6 GND, B7 GND, B12 GND, B13 GND, B16 GND, B19 GND, B22 GND, B23 GND, B28 GND, B29 GND, B34 GND, C2 GND, C4 GND, C7 GND, C10 GND, C13 GND, C16 GND, C19 GND, C22 GND, C25 GND, C28 GND, C31 GND, C33 GND, D5 GND, D6 GND, D9 GND, D10 GND, D11 GND, D12 GND, D15 GND, D16 GND, D18 GND, D19 GND, D20 GND, D23 GND, D24 GND, D25 GND, D26 GND, D29 GND, D30 GND, E1 GND, E5 GND, E6 GND, E7 GND, E8 GND, E9 GND, E10 GND, E12 GND, E13 GND, E14 GND, E15 GND, E20 GND, E21 GND, E22 GND, E23 GND, E25 GND, E26 GND, E27 GND, E28 GND, E29 GND, E30 GND, E34 GND, F1 GND, F3 GND, F5 GND, F7 GND, F12 GND, F22 GND, F27 GND, F29 GND, F30 GND, F32 GND, F34 GND, G4 GND, G5 GND, G9 GND, G19 GND, G29 GND, G30 GND, G31 GND, H2 GND, H5 GND, H6 GND, H16 GND, H26 GND, H30 GND, M23 VCCAUX, N12 VCCAUX, N14 VCCINT, N18 VCCINT, N20 VCCINT, N24 VCCAUX, P11 VCCAUX, P13 VCCINT, P15 VCCINT, P17 VCCINT, P19 VCCINT, P21 VCCINT, P23 VCCAUX, P24 VBATT_0, R12 VCCINT, R14 VCCINT, R16 VCCINT, R18 VCCINT, R20 VCCINT, R22 VCCINT, R24 VCCAUX, T11 VCCAUX, T13 VCCINT, T15 VCCINT, T17 AVSS_0, T18 AVDD_0, T19 VCCINT, T21 VCCINT, T23 VCCAUX, U12 VCCINT, U14 VCCINT, U16 VCCINT, U20 VCCINT, U22 VCCINT, U24 VCCAUX, V11 VCCAUX, V13 VCCINT, V15 VCCINT, V19 VCCINT, V21 VCCINT, V23 VCCINT, W12 VCCINT, W14 VCCINT, W16 VCCINT, W20 VCCINT, W22 VCCINT, Y11 VCCAUX, Y13 VCCINT, Y15 VCCINT, Y17 VCCINT, Y19 VCCINT, Y21 VCCINT, Y23 VCCINT
part T pins: AA2 GND, AA4 GND, AA5 GND, AA7 GND, AA11 GND, AA13 GND, AA15 GND, AA17 GND, AA19 GND, AA21 GND, AA23 GND, AA27 GND, AA30 GND, AA31 GND, AA33 GND, AB4 GND, AB9 GND, AB14 GND, AB22 GND, AB24 GND, AB31 GND, AC1 GND, AC4 GND, AC11 GND, AC13 GND, AC21 GND, AC31 GND, AC34 GND, AD1 GND, AD3 GND, AD4 GND, AD8 GND, AD18 GND, AD23 GND, AD28 GND, AD31 GND, AD32 GND, AD34 GND, AE4 GND, AE5 GND, AE15 GND, AE25 GND, AE30 GND, AE31 GND, AF2 GND, AF5 GND, AF12 GND, AF22 GND, AF30 GND, AF33 GND, AG2 GND, AG4 GND, AG5 GND, AG9 GND, AG19 GND, AG29 GND, AG30 GND, AG31 GND, AG33 GND, AH4 GND, AH5 GND, AH6 GND, AH16 GND, AH26 GND, AH30 GND, AH31 GND, AJ1 GND, AJ4 GND, AJ5 GND, AJ6 GND, AJ8 GND, AJ13 GND, AJ23 GND, AJ28 GND, AJ29 GND, AJ30 GND, AJ31 GND, AJ34 GND, AK1 GND, AK3 GND, AK4 GND, AK6 GND, AK7 GND, AK8 GND, AK10 GND, AK12 GND, AK13 GND, AK14 GND, AK15 GND, AK20 GND, AK21 GND, AK22 GND, AK23 GND, AK25 GND, AK27 GND, AK28 GND, AK29 GND, AK31 GND, AK32 GND, AK34 GND, AL6 GND, AL8 GND, AL9 GND, AL10 GND, AL11 GND, AL12 GND, AL14 GND, AL15 GND, AL16 GND, AL17 GND, AL19 GND, AL20 GND, AL21 GND, AL23 GND, AL24 GND, AL25 GND, AL26 GND, AL27 GND, AL29 GND, AM2 GND, AM5 GND, AM11 GND, AM16 GND, AM17 GND, AM18 GND, AM19 GND, AM24 GND, AM30 GND, AM33 GND, AN1 GND, AN6 GND, AN7 GND, AN12 GND, AN13 GND, AN16 GND, AN17 GND, AN18 GND, AN19 GND, AN22 GND, AN23 GND, AN28 GND, AN29 GND, AN34 GND, AP3 GND, AP4 GND, AP9 GND, AP10 GND, AP15 GND, AP17 GND, AP18 GND, AP20 GND, AP25 GND, AP26 GND, AP31 GND, AP32 GND, H33 GND, J2 GND, J4 GND, J5 GND, J13 GND, J23 GND, J30 GND, J31 GND, J33 GND, K4 GND, K5 GND, K10 GND, K20 GND, K30 GND, K31 GND, L1 GND, L4 GND, L7 GND, L17 GND, L27 GND, L31 GND, L34 GND, M1 GND, M3 GND, M4 GND, M9 GND, M14 GND, M24 GND, M31 GND, M32 GND, M34 GND, N4 GND, N5 GND, N6 GND, N11 GND, N19 GND, N21 GND, N23 GND, N30 GND, N31 GND, P2 GND, P5 GND, P8 GND, P12 GND, P14 GND, P16 GND, P18 GND, P20 GND, P22 GND, P28 GND, P30 GND, P33 GND, R2 GND, R4 GND, R5 GND, R11 GND, R13 GND, R15 GND, R17 GND, R19 GND, R21 GND, R23 GND, R25 GND, R30 GND, R31 GND, R33 GND, T4 GND, T5 GND, T12 GND, T14 GND, T16 GND, T20 GND, T22 GND, T24 GND, T30 GND, T31 GND, U1 GND, U5 GND, U9 GND, U11 GND, U13 GND, U15 GND, U19 GND, U21 GND, U23 GND, U29 GND, U30 GND, U34 GND, V1 GND, V3 GND, V5 GND, V6 GND, V12 GND, V14 GND, V16 GND, V20 GND, V22 GND, V26 GND, V30 GND, V32 GND, V34 GND, W4 GND, W5 GND, W11 GND, W13 GND, W15 GND, W19 GND, W21 GND, W23 GND, W28 GND, W30 GND, W31 GND, Y2 GND, Y5 GND, Y10 GND, Y12 GND, Y14 GND, Y16 GND, Y18 GND, Y20 GND, Y22 GND, Y30 GND, Y33 GND

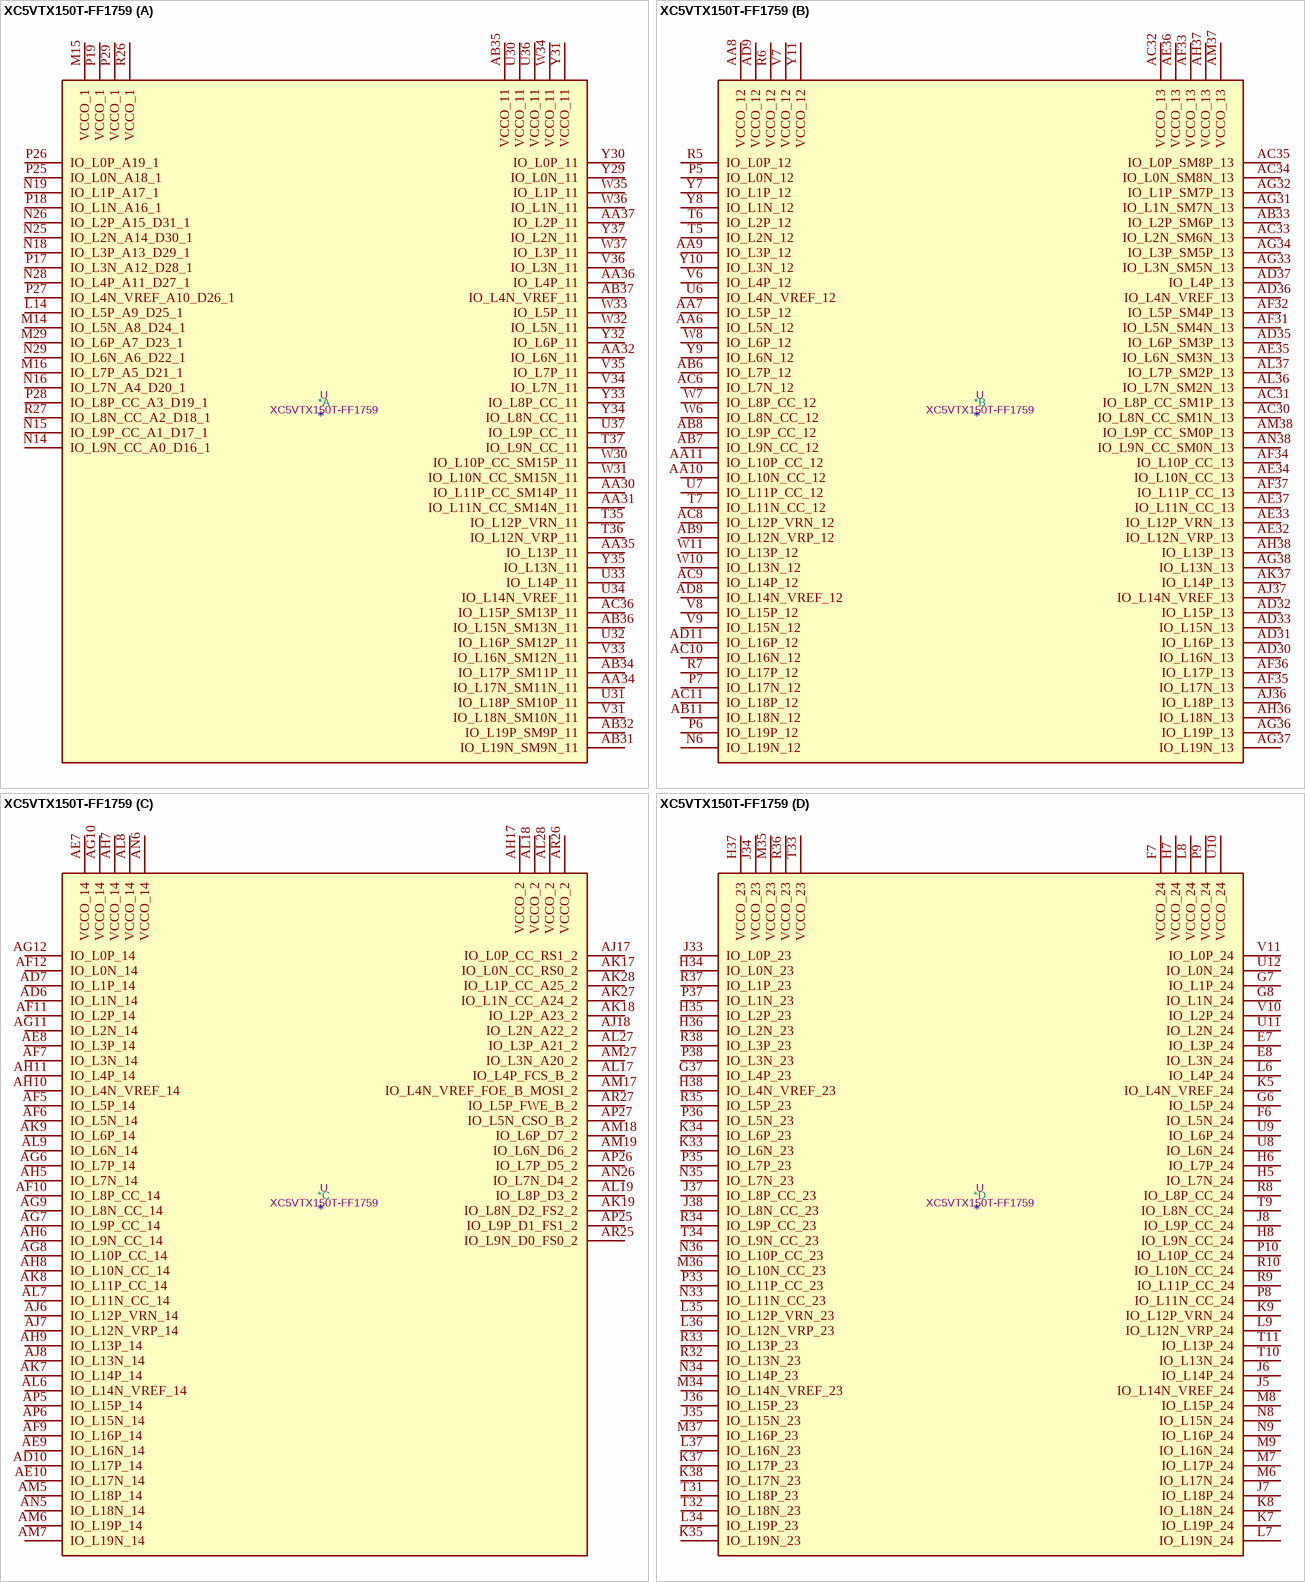
[diagram p129: symbol XC5VTX150T-FF1759]

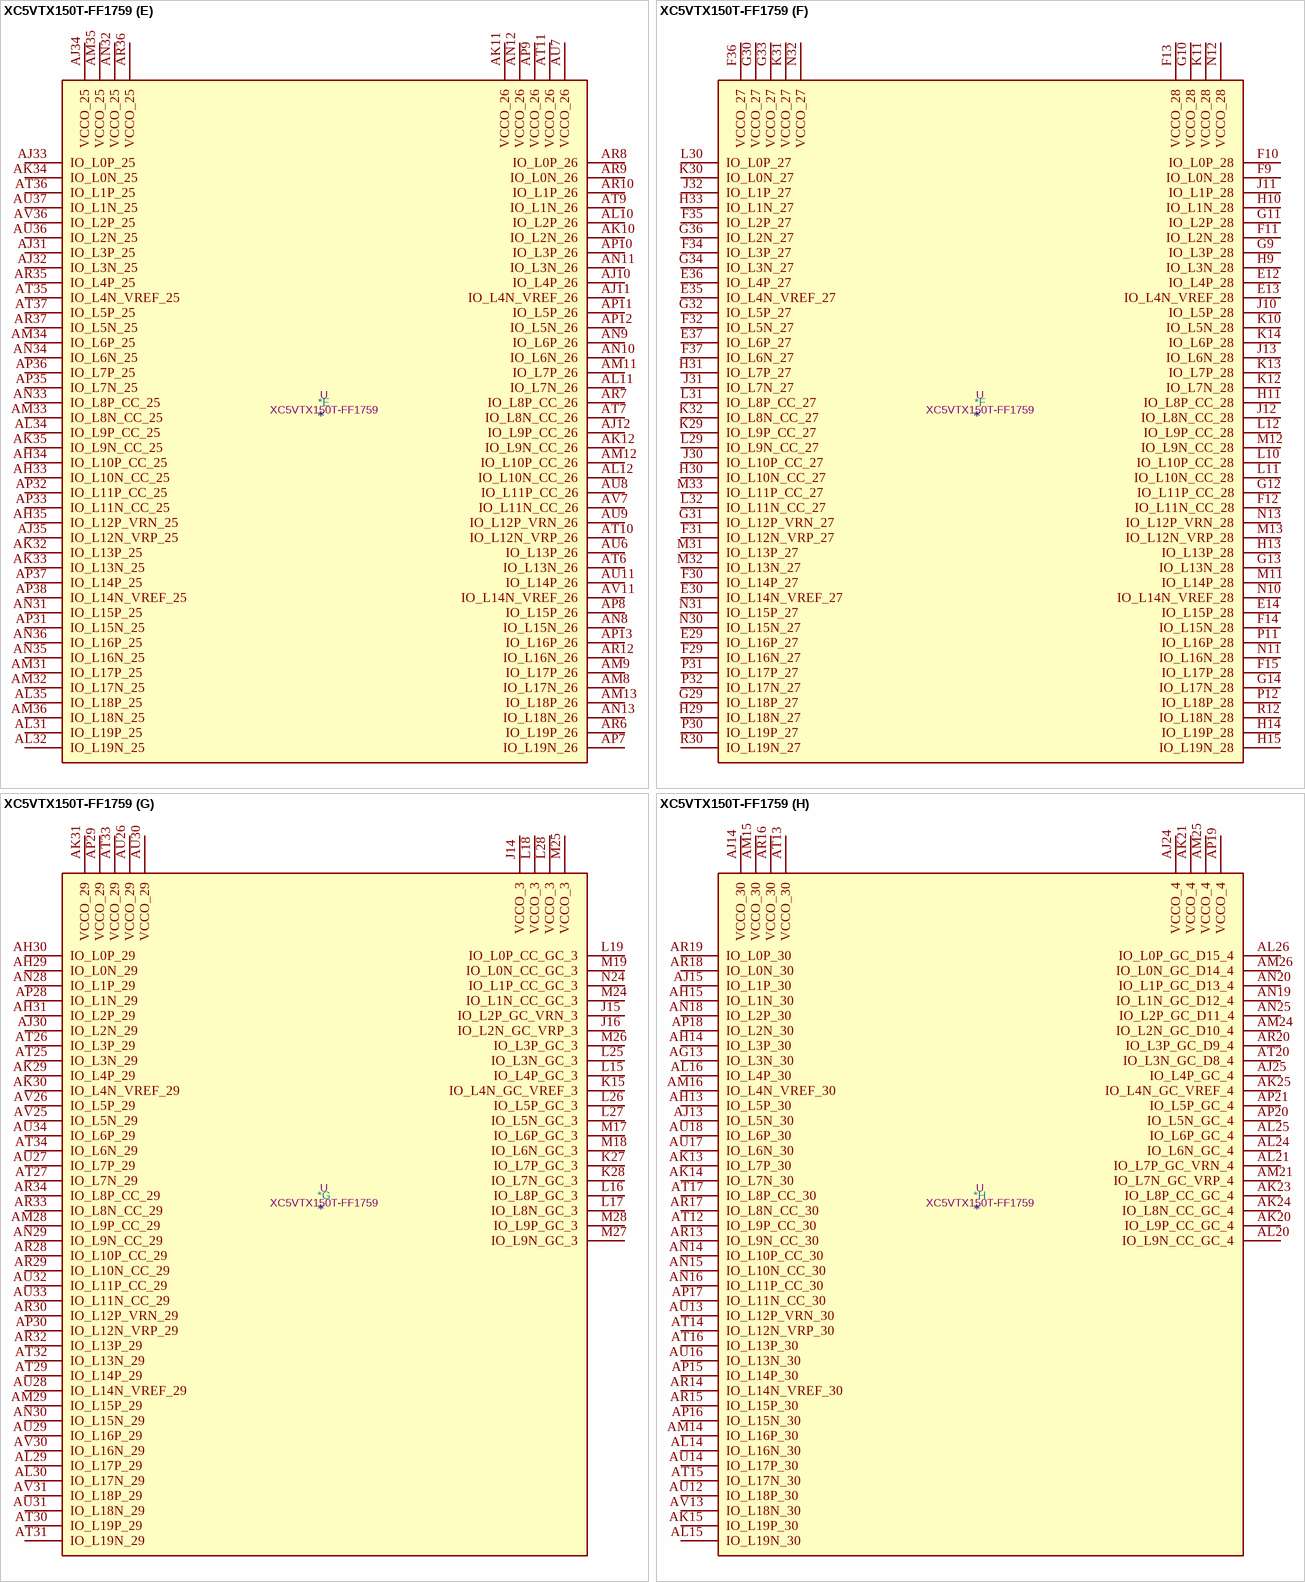
[diagram p130: symbol XC5VTX150T-FF1759]

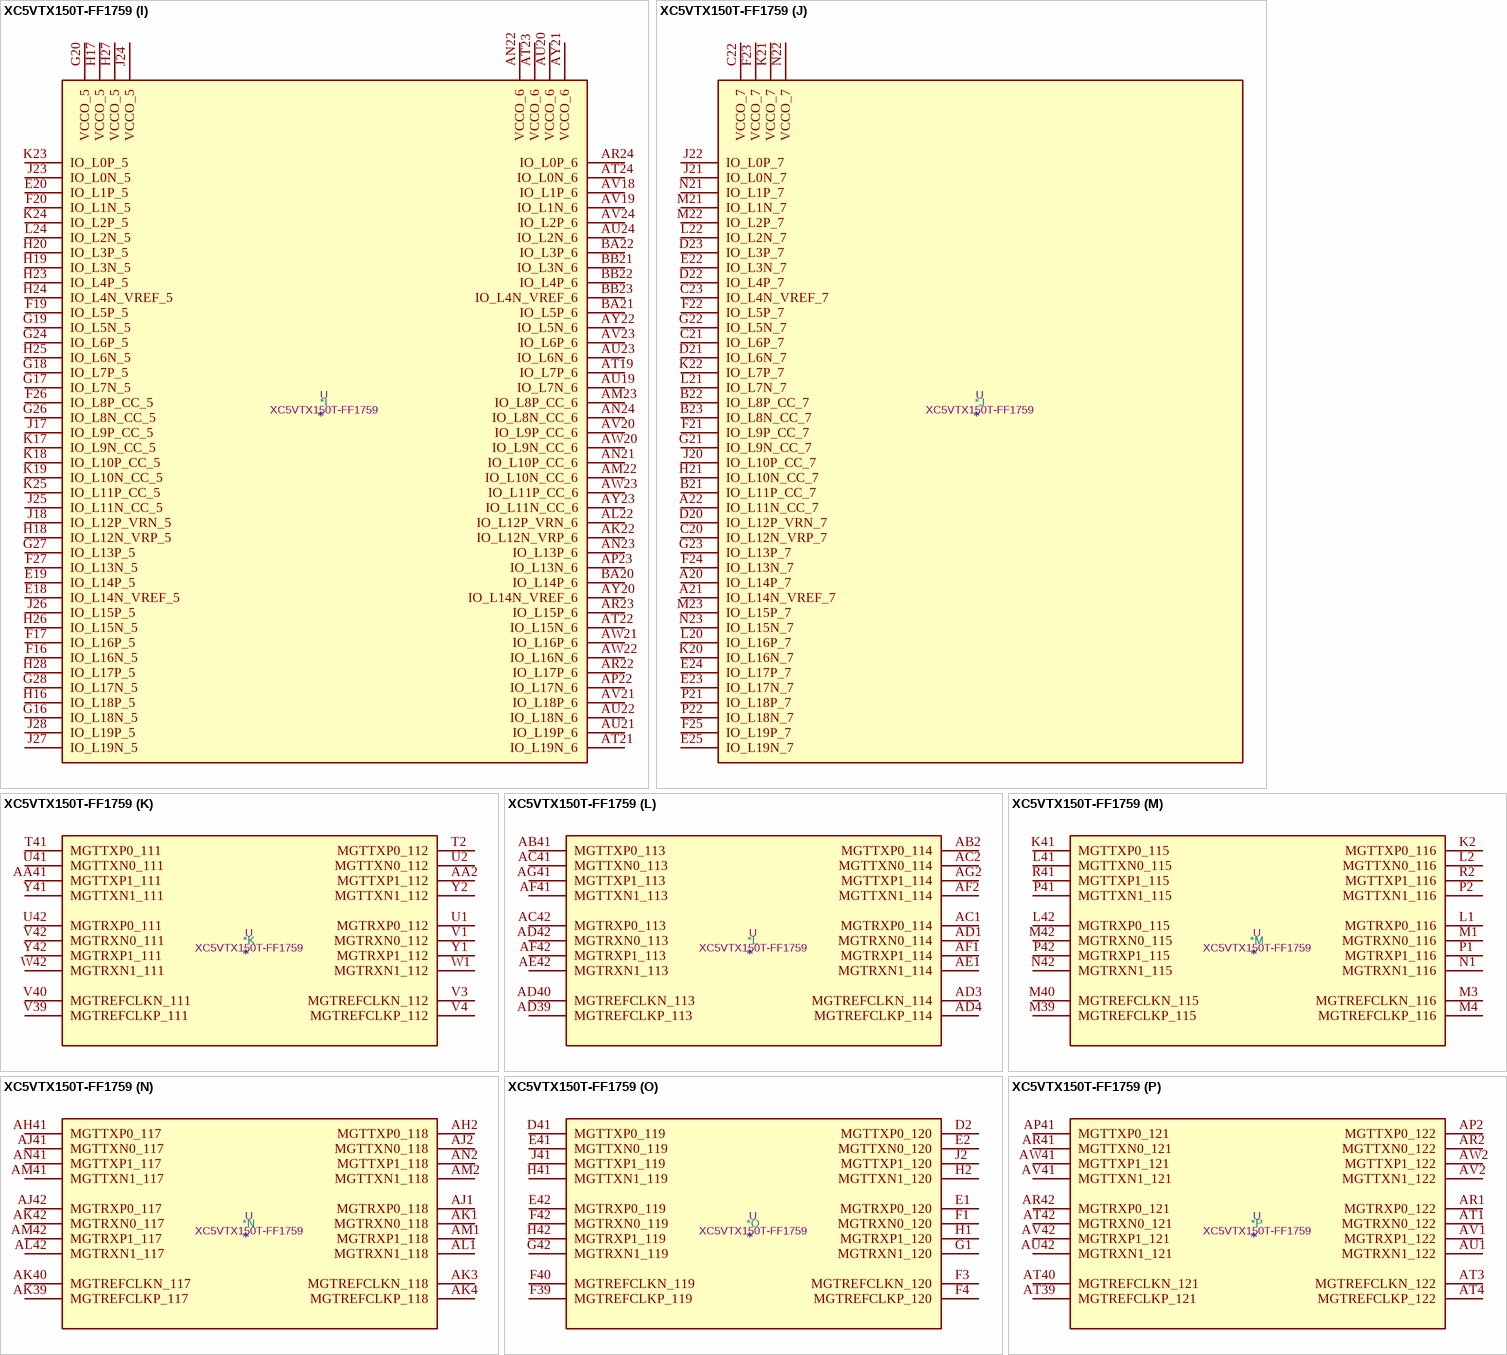
[diagram p131: symbol XC5VTX150T-FF1759]

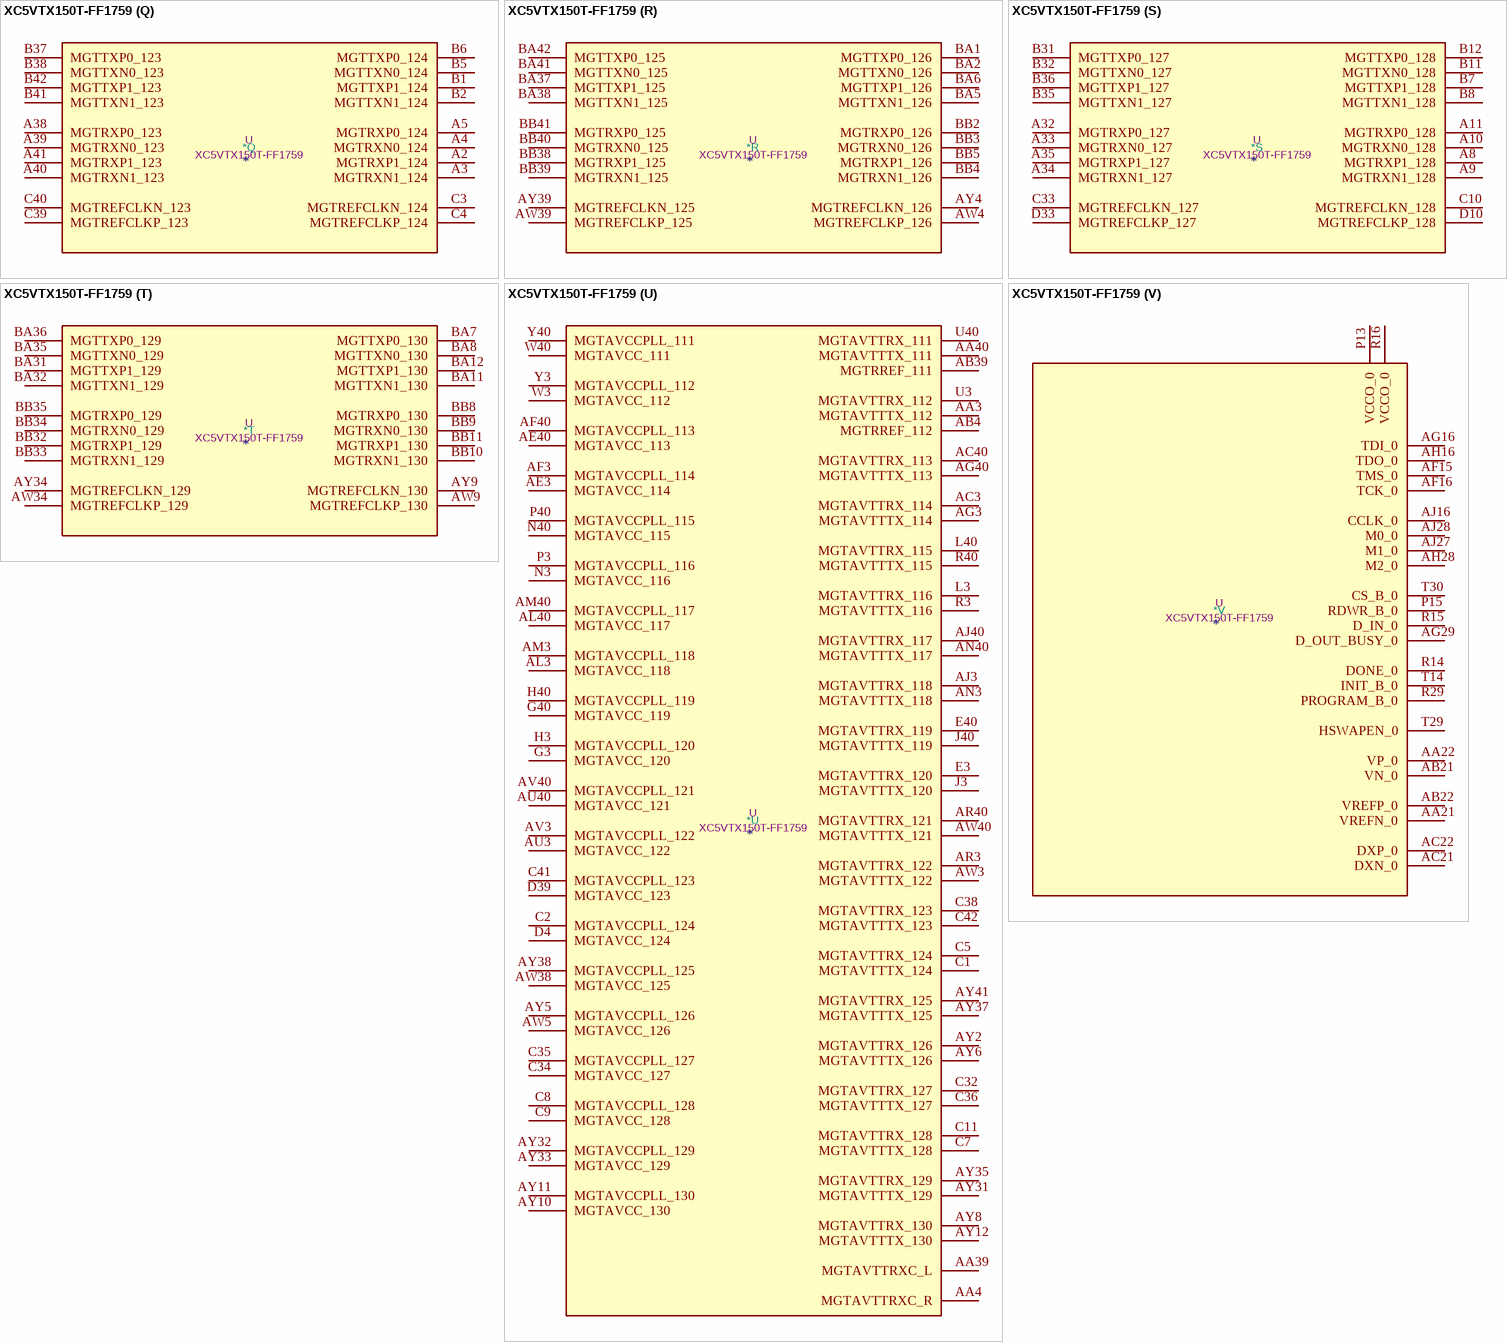
[diagram p132: symbol XC5VTX150T-FF1759]

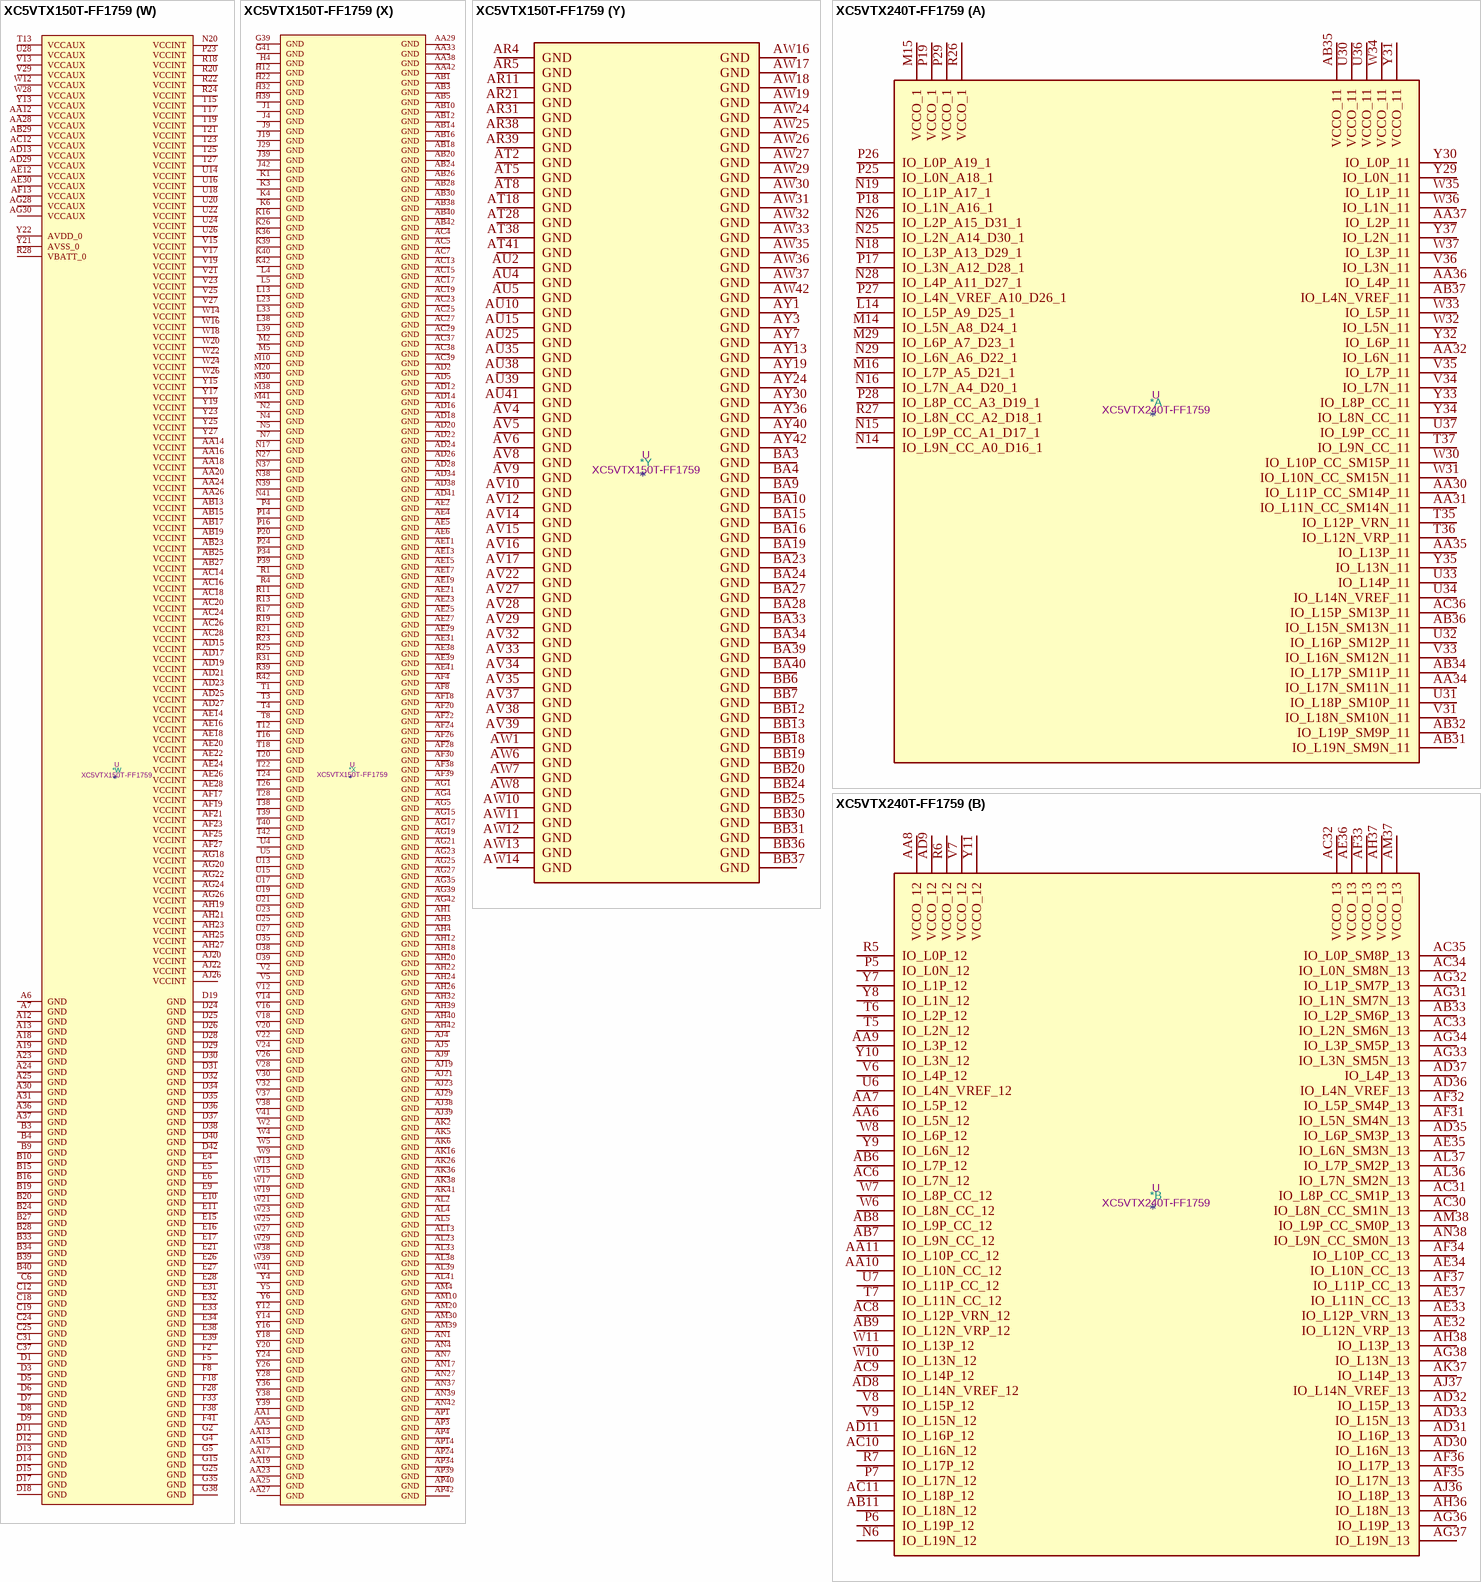
[diagram p133: symbols XC5VTX150T-FF1759 to XC5VTX240T-FF1759]